# Altium schematic symbol library LimeMicroAltiumLib.SchLib: 659 symbols (part 13 of 22)
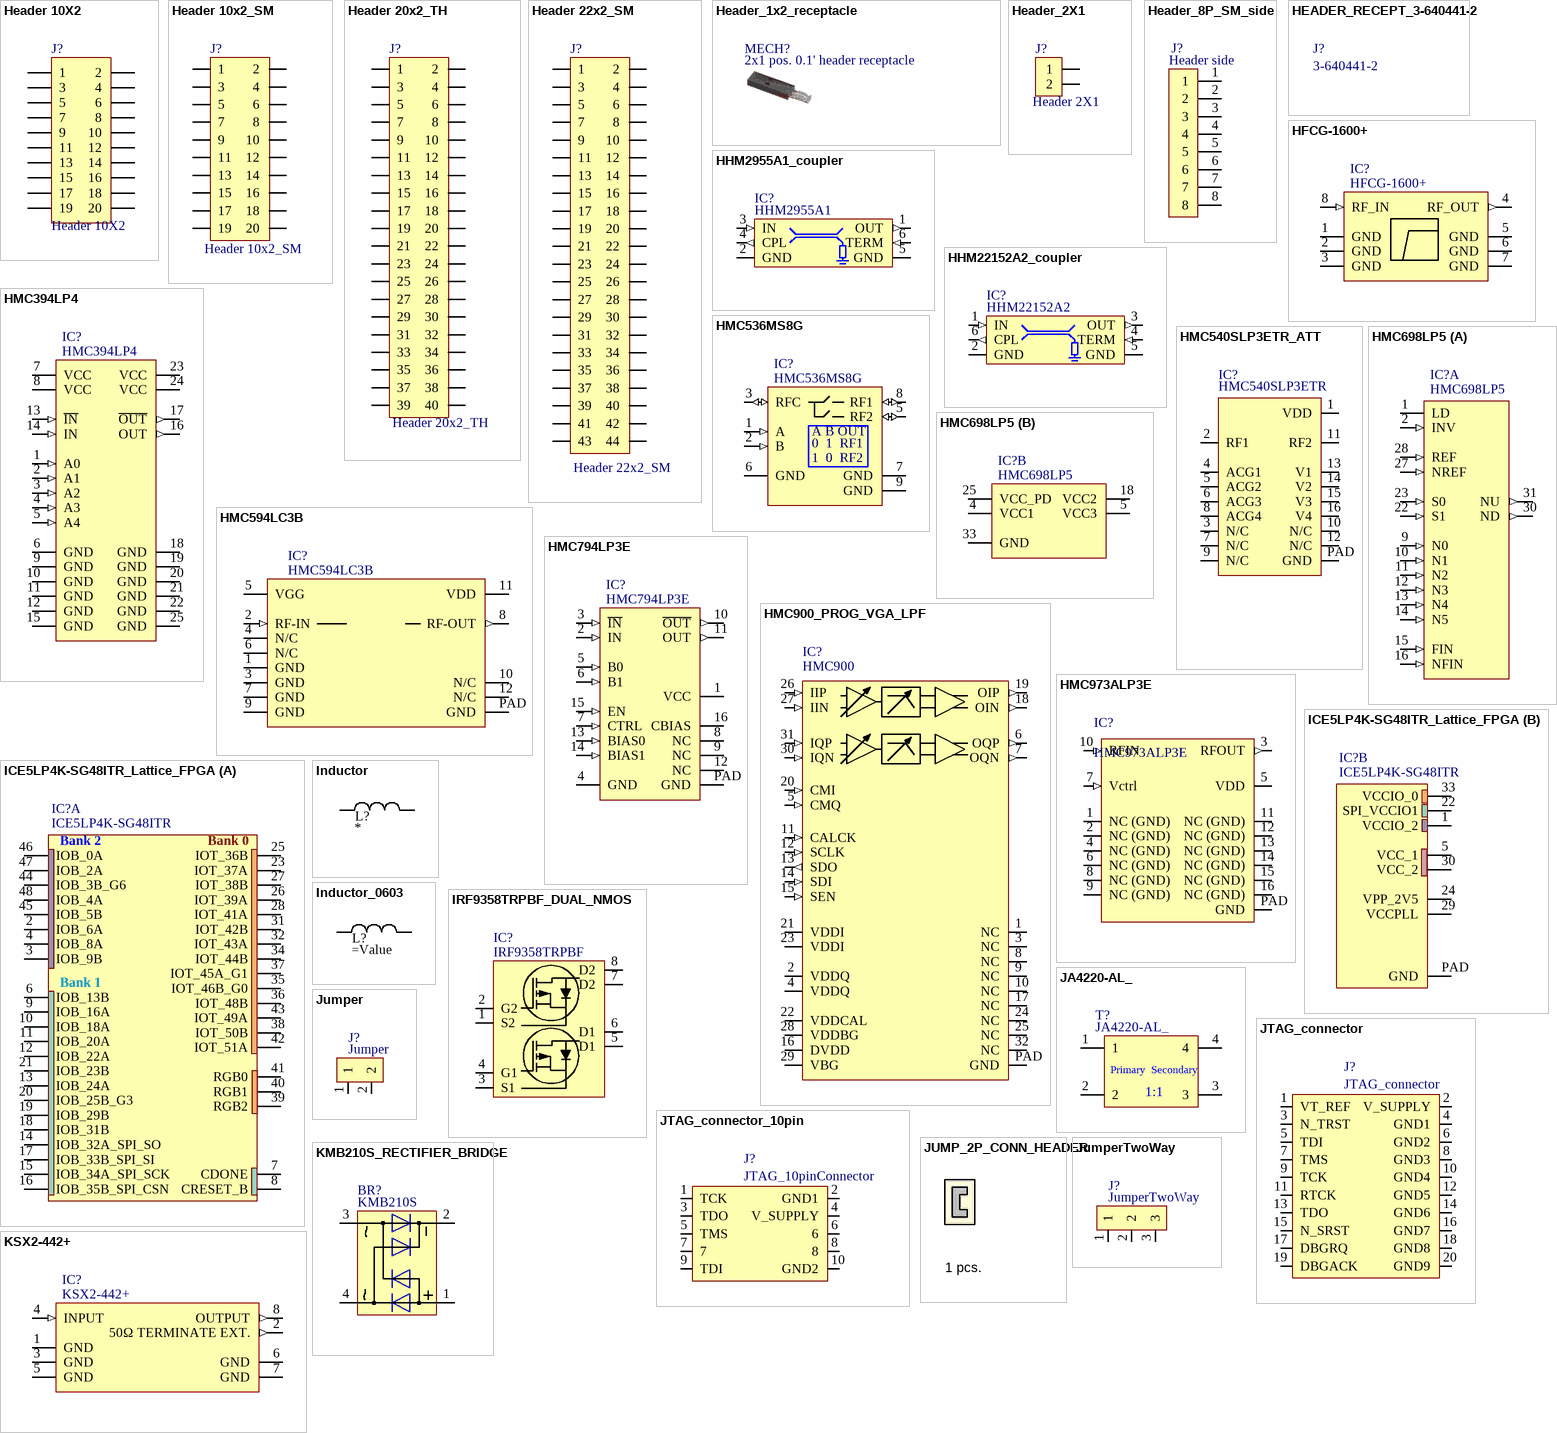
[diagram p90: symbols Header 10X2 to KSX2-442+]

## HMC794LP3E
designator IC?
2 GHz LOW NOISE PROGRAMMABLEDIVIDER (N = 1 to 4); Manufacturer: Analog Devices; Manufacturer Part Number 1: HMC794LP3E; Part Description: 2 GHz LOW NOISE PROGRAMMABLEDIVIDER (N = 1 to 4); Supplier 1: Mouser; Supplier Part Number 1: 584-HMC794LP3E
footprint HMC794LP3E_QFN3X3-16 (Quad Flat No Lead, Plastic; 16 Terminals; Body 3 x 3 mm; Pitch 0.5 mm)
pins: 1 VCC (power), 2 IN (in), 3 ~{IN} (in), 4 GND, 5 B0 (in), 6 B1 (in), 7 CTRL (in), 8 NC, 9 NC, 10 ~{OUT} (out), 11 OUT (out), 12 NC, 13 BIAS0 (in), 14 BIAS1 (in), 15 EN (in), 16 CBIAS (power), PAD GND

## HMC900_PROG_VGA_LPF
designator IC?, comment HMC900
HMC900 pin and package compatible alternative is HMC1023; Manufacturer: Analog Devices Hittite; Manufacturer Part Number 1: HMC900LP5E; Part Description: - Frequency Low Pass RF Filter (Radio Frequency) - Bandwidth - 32-VFQFN Exposed Pad; Operating Supply Voltage: 5V; Max Supply Voltage: 5.25V; Min Supply Voltage: 4.75V; Number of Channels: 2; Max Frequency: 80MHz; Bandwidth: 50MHz; Filter Type: LOW PASS FILTER; Min Frequency: 20MHz; Supplier 1: Digi-Key; Supplier Part Number 1: 1127-3123-ND; Stock 1: 78; Pricing 1: 1=35,35000, 10=32,60400, 25=31,13840, 100=28,51200 (USD); RoHS: Yes; Mount: Surface Mount; Case/Package: QFN; Number of Pins: 32; Weight: 0.006653oz; Min Operating Temperature: -40°C; Max Operating Temperature: 85°C; Type: Active; Number of Circuits: 2; Series: *; Length: 5.1mm; Width: 5.1mm; Height: 1mm; REACH SVHC: No SVHC; Package Quantity: 50; Packaging: Cut Tape
footprint HMC900_RECONFIG_VGA_LPF_QFN32 (QFN, 24-Leads, Body 4,00x4,00mm, Pitch 0,50mm, Thermal Pad 2,55x2,55mm, IPC Medium Density)
pins: 1 NC, 2 VDDQ (power), 3 NC, 4 VDDQ (power), 5 CMQ (in), 6 OQP (out), 7 OQN (out), 8 NC, 9 NC, 10 NC, 11 CALCK (in), 12 SCLK (in), 13 SDO (out), 14 SDI (in), 15 SEN (in), 16 DVDD (power), 17 NC, 18 OIN (out), 19 OIP (out), 20 CMI (in), 21 VDDI (power), 22 VDDCAL (power), 23 VDDI (power), 24 NC, 25 NC, 26 IIP (in), 27 IIN (in), 28 VDDBG (power), 29 VBG (power), 30 IQN (in), 31 IQP (in), 32 NC, PAD GND

## HMC973ALP3E
designator IC?
Part Description: RF Attenuators 28dB  500MHz ~ 6GHz 50 Ohms  16-VFQFN Exposed Pad, CSP; Manufacturer: Analog Devices Inc.; Supplier 1: Digi-Key; Supplier Part Number 1: 1127-3363-ND; Manufacturer Part Number 1: HMC973ALP3E
footprint HMC973ALP3E_QFN16_3x3
pins: 1 NC (GND), 2 NC (GND), 3 RFOUT (out), 4 NC (GND), 5 VDD (power), 6 NC (GND), 7 Vctrl (in), 8 NC (GND), 9 NC (GND), 10 RFIN (in), 11 NC (GND), 12 NC (GND), 13 NC (GND), 14 NC (GND), 15 NC (GND), 16 NC (GND), PAD GND

## ICE5LP4K-SG48ITR_Lattice_FPGA
designator IC?, comment ICE5LP4K-SG48ITR
Part Description: iCE40 Ultra™ Field Programmable Gate Array (FPGA) IC 39 81920 3520 48-VFQFN Exposed Pad; Manufacturer: Lattice Semiconductor; Supplier 1: Digikey; Supplier Part Number 1: 220-2234-1-ND; Manufacturer Part Number 1: ICE5LP4K-SG48ITR; Stock 1: 1298; Pricing 1: 1=8,8, 25=7,65, 100=7,41 (USD); RoHS: Yes; ComponentLink1URL: https://datasheet.octopart.com/ICE5LP4K-SG48ITR-Lattice-Semiconductor-datasheet-46750633.pdf?src-supplier=Future+Electronics; ComponentLink1Description: https://datasheet.octopart.com/ICE5LP4K-SG48ITR-Lattice-Semiconductor-datasheet-46750633.pdf?src-supplier=Future+Electronics; ComponentLink2URL: http://www.latticesemi.com/~/media/LatticeSemi/Documents/DataSheets/iCE/iCE40UltraFamilyDataSheet.pdf?src-supplier=Digikey; ComponentLink2Description: http://www.latticesemi.com/~/media/LatticeSemi/Documents/DataSheets/iCE/iCE40UltraFamilyDataSheet.pdf?src-supplier=Digikey; ComponentLink3URL: https://datasheet.octopart.com/ICE5LP4K-SG48ITR-Lattice-Semiconductor-datasheet-94675077.pdf?src-supplier=SHENGYU+ELECTRONICS; ComponentLink3Description: https://datasheet.octopart.com/ICE5LP4K-SG48ITR-Lattice-Semiconductor-datasheet-94675077.pdf?src-supplier=SHENGYU+ELECTRONICS
footprint ICE5LP4K-SG48ITR_Lattice_FPGA_QFN48 (Footprint not found)
part A pins: 2 IOB_6A, 3 IOB_9B, 4 IOB_8A, 6 IOB_13B, 7 CDONE, 8 CRESET_B, 9 IOB_16A, 10 IOB_18A, 11 IOB_20A, 12 IOB_22A, 13 IOB_24A, 14 IOB_32A_SPI_SO, 15 IOB_34A_SPI_SCK, 16 IOB_35B_SPI_CSN, 17 IOB_33B_SPI_SI, 18 IOB_31B, 19 IOB_29B, 20 IOB_25B_G3, 21 IOB_23B, 23 IOT_37A, 25 IOT_36B, 26 IOT_39A, 27 IOT_38B, 28 IOT_41A, 31 IOT_42B, 32 IOT_43A, 34 IOT_44B, 35 IOT_46B_G0, 36 IOT_48B, 37 IOT_45A_G1, 38 IOT_50B, 39 RGB2, 40 RGB1, 41 RGB0, 42 IOT_51A, 43 IOT_49A, 44 IOB_3B_G6, 45 IOB_5B, 46 IOB_0A, 47 IOB_2A, 48 IOB_4A
part B pins: 1 VCCIO_2 (power), 5 VCC_1 (power), 22 SPI_VCCIO1 (power), 24 VPP_2V5 (power), 29 VCCPLL (power), 30 VCC_2 (power), 33 VCCIO_0 (power), PAD GND
part A text: Bank 2; Bank 0; Bank 1

## Inductor
designator L?
Value: *
pins: 1, 2

## Inductor_0603
designator L?
pins: 1, 2

## IRF9358TRPBF_DUAL_NMOS
designator IC?, comment IRF9358TRPBF
Part Description: Mosfet Array 2 P-Channel (Dual) 30V 9.2A 2W Surface Mount 8-SO; Manufacturer: International Rectifier; Element Configuration: Dual; Drain to Source Breakdown Voltage: -30V; Rise Time: 7.2ns; Rds On Max: 16.3mR; Input Capacitance: 1.74nF; Nominal Vgs: -1.8V; Gate to Source Voltage (Vgs): 20V; Power Dissipation: 2W; Drain to Source Voltage (Vdss): 30V; Continuous Drain Current (ID): 9.2A; Turn-On Delay Time: 5.7ns; Turn-Off Delay Time: 146ns; Fall Time: 69ns; Drain to Source Resistance: 23.8mR; Supplier 1: Digi-Key; Supplier Part Number 1: IRF9358TRPBFDKR-ND; Manufacturer Part Number 1: IRF9358TRPBF; Stock 1: 0; RoHS: Yes; Mount: Surface Mount; Case/Package: SOIC; Number of Pins: 8; Min Operating Temperature: -55°C; Max Operating Temperature: 150°C; Package Quantity: 1; Packaging: Tape and Reel; Max Power Dissipation: 2W; Length: 5mm; Width: 4mm; Height: 1.5mm; Radiation Hardening: No; REACH SVHC: No SVHC; ComponentLink1URL: https://datasheet.ciiva.com/7798/irf9358pbf-7798959.pdf?src-supplier=Element14; ComponentLink1Description: https://datasheet.ciiva.com/7798/irf9358pbf-7798959.pdf?src-supplier=Element14; ComponentLink2URL: https://datasheet.ciiva.com/929/irf9358pbf-929243.pdf?src-supplier=Digi-Key; ComponentLink2Description: https://datasheet.ciiva.com/929/irf9358pbf-929243.pdf?src-supplier=Digi-Key; ComponentLink3URL: https://datasheet.ciiva.com/929/irf9358pbf-929244.pdf?src-supplier=Digi-Key; ComponentLink3Description: https://datasheet.ciiva.com/929/irf9358pbf-929244.pdf?src-supplier=Digi-Key; ComponentLink4URL: https://datasheet.ciiva.com/929/irf9358pbf-929245.pdf?src-supplier=Digi-Key; ComponentLink4Description: https://datasheet.ciiva.com/929/irf9358pbf-929245.pdf?src-supplier=Digi-Key
footprint IRF9358TRPBF_DUAL_NMOS_SOIC8 (8-Pin Small Outline Integrated Circuit 1.27 mm Pitch)
pins: 1 S2, 2 G2, 3 S1, 4 G1, 5 D1, 6 D1, 7 D2, 8 D2

## JA4220-AL_
designator T?
Part Description: RF balun; 1:1 ratio; 3 dB bandwidth: 0.1 MHz to 3.5 GHz; 3.8mm x 3.8mm; Supplier 1: Coilcraft; Manufacturer Part Number 1: JA4220-AL_; Supplier Part Number: JA4220-AL_
footprint JA4220-AL_
pins: 1, 2, 3, 4
text: Primary; Secondary; 1:1

## JTAG_connector
designator J?
pins: 1 VT_REF, 2 V_SUPPLY, 3 N_TRST, 4 GND1 (power), 5 TDI, 6 GND2 (power), 7 TMS, 8 GND3 (power), 9 TCK, 10 GND4 (power), 11 RTCK, 12 GND5 (power), 13 TDO, 14 GND6 (power), 15 N_SRST, 16 GND7 (power), 17 DBGRQ, 18 GND8 (power), 19 DBGACK, 20 GND9 (power)

## JTAG_connector_10pin
designator J?, comment JTAG_10pinConnector
footprint HEADER5x2_SM
pins: 1 TCK, 2 GND1 (power), 3 TDO, 4 V_SUPPLY (power), 5 TMS, 6, 7, 8, 9 TDI, 10 GND2 (power)

## JUMP_2P_CONN_HEADER
designator JMP?, comment 1 pcs.  (mechanical)
Shorting Jumper, 2-position, 2.54mm pitch; Manufacturer: Sullins Connector Solutions; Manufacturer Part Number 1: SPC02SYAN; Pitch: 0.100" (2.54mm); Gender: Female Sockets; Number of Positions or Pins (Grid): 2 (1 x 2); Supplier 1: Digi-Key; Type: Closed Top; Packaging: Bulk; Contact Finish: Gold; Color: Black; Height: 0.256" (6.50mm); RoHS: RoHS Compliant; Category: Connectors, Interconnects; Contact Finish Thickness: Flash; Supplier Part Number 1: S9001-ND
pins: 1 hidden, 2 hidden

## Jumper
designator J?
pins: 1, 2

## JumperTwoWay
designator J?
footprint HDR_1x3
pins: 1, 2, 3

## KMB210S_RECTIFIER_BRIDGE
designator BR?, comment KMB210S
Part Description: Bridge Rectifier Single Phase Schottky 100 V Surface Mount MBS; Manufacturer: SMC Diode Solutions; Manufacturer Part Number: KMB210S; Supplier Part Number 1: 1655-KMB210SCT-ND; Supplier 1: Digi-Key
footprint KMB210S_RECTIFIER_BRIDGE
pins: 1, 2, 3, 4

## KSX2-442+
designator IC?
Frequency Multiplier: 50Ω, Output 1200 to 4400 MHz; Manufacturer: Mini-Circuits; Supplier Part Number 1: KSX2-442+; Supplier 1: Mini-Circuits; Part Description: Frequency Multiplier: 50Ω, Output 1200 to 4400 MHz; Manufacturer Part Number 1: KSX2-442+
footprint KSX2-442+_HV1195
pins: 1 GND, 2 50Ω TERMINATE EXT. (out), 3 GND, 4 INPUT (in), 5 GND, 6 GND, 7 GND, 8 OUTPUT (out)

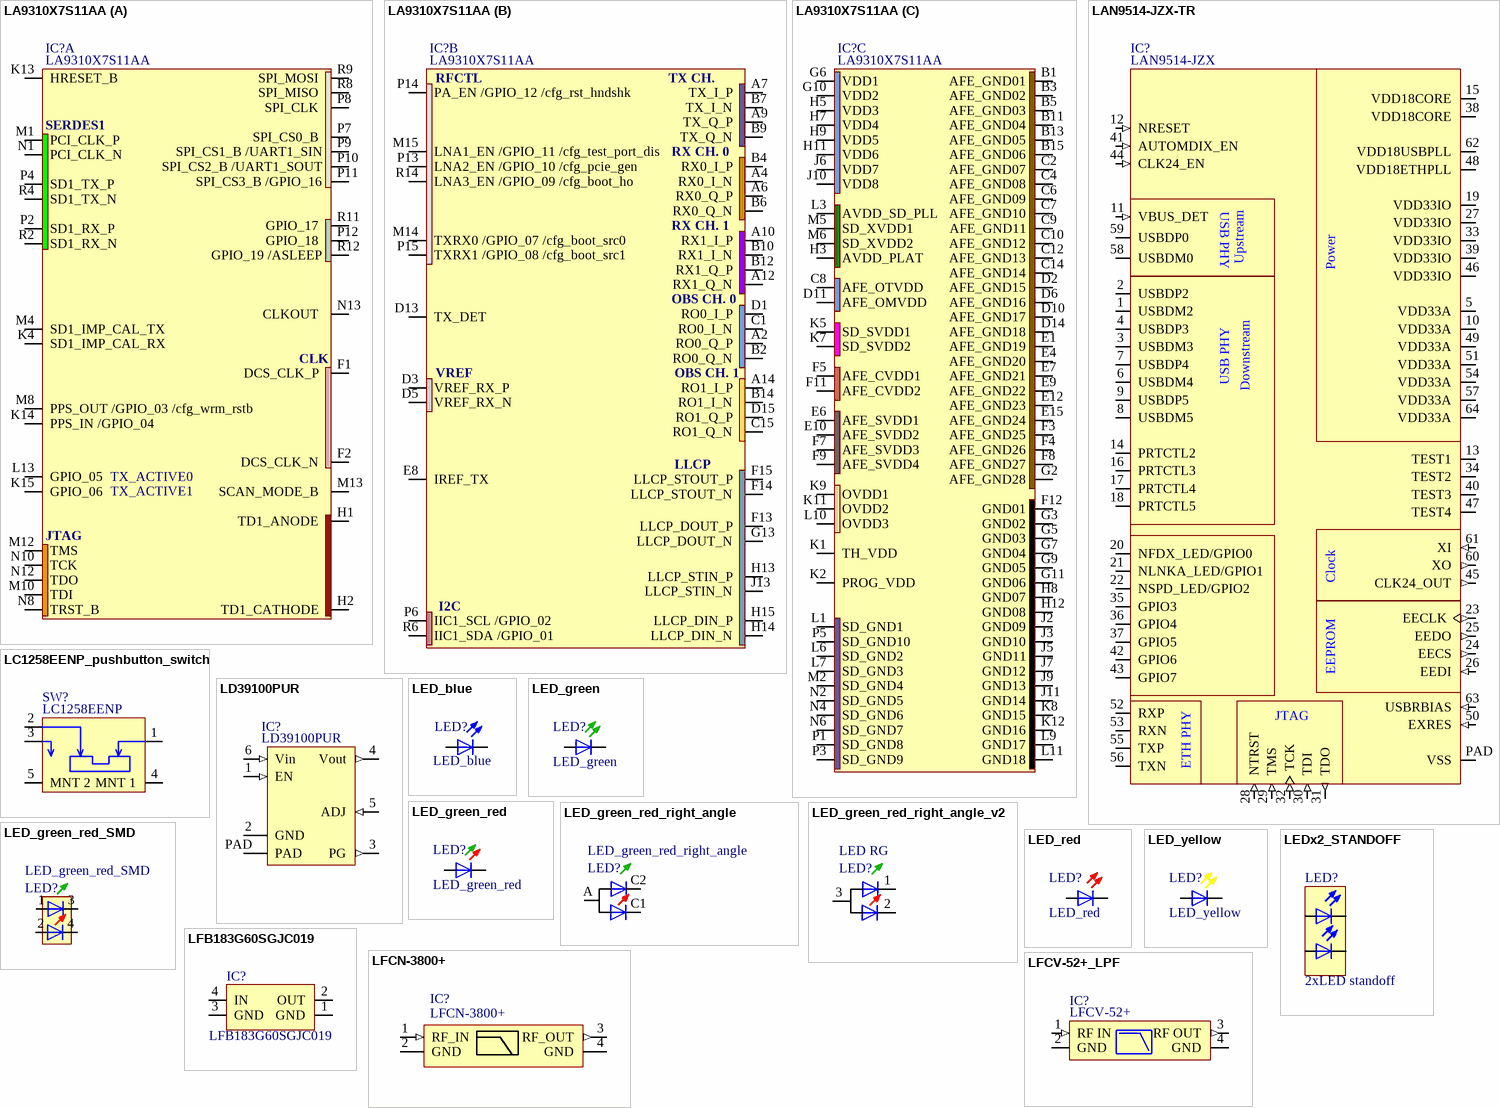
[diagram p51: symbols LA9310X7S11AA to LFCV-52+_LPF]

## LA9310X7S11AA
designator IC?
Part Description: LFBGA157, low profile, fine-pitch ball grid array package, 157 terminals, 0.5 mm pitch, 8 mm x 8 mm x 1.25 mm body.; Manufacturer: NXP Semiconductors; Manufacturer Part Number 1: LA9310X7S11AA; Supplier 1: NXP Semiconductors; Supplier Part Number 1: LA9310X7S11AA
footprint LA9310X7S11AA (Footprint not found)
part A pins: F1 DCS_CLK_P  (power), F2 DCS_CLK_N  (power), H1 TD1_ANODE  (power), H2 TD1_CATHODE  (power), K4 SD1_IMP_CAL_RX  (power), K13 HRESET_B  (power), K14 PPS_IN /GPIO_04 (power), K15 GPIO_06 (power), L13 GPIO_05 (power), M1 PCI_CLK_P  (power), M4 SD1_IMP_CAL_TX  (power), M8 PPS_OUT /GPIO_03 /cfg_wrm_rstb (power), M10 TDI  (power), M12 TMS  (power), M13 SCAN_MODE_B  (power), N1 PCI_CLK_N  (power), N8 TRST_B  (power), N10 TCK  (power), N12 TDO  (power), N13 CLKOUT  (power), P2 SD1_RX_P  (power), P4 SD1_TX_P  (power), P7 SPI_CS0_B  (power), P8 SPI_CLK  (power), P9 SPI_CS1_B /UART1_SIN (power), P10 SPI_CS2_B /UART1_SOUT (power), P11 SPI_CS3_B /GPIO_16 (power), P12 GPIO_18  (power), R2 SD1_RX_N  (power), R4 SD1_TX_N  (power), R8 SPI_MISO  (power), R9 SPI_MOSI  (power), R11 GPIO_17  (power), R12 GPIO_19 /ASLEEP (power)
part B pins: A2 RO0_Q_P  (power), A4 RX0_I_N  (power), A6 RX0_Q_P  (power), A7 TX_I_P  (power), A9 TX_Q_P  (power), A10 RX1_I_P  (power), A12 RX1_Q_N  (power), A14 RO1_I_P  (power), B2 RO0_Q_N  (power), B4 RX0_I_P  (power), B6 RX0_Q_N  (power), B7 TX_I_N  (power), B9 TX_Q_N  (power), B10 RX1_I_N  (power), B12 RX1_Q_P  (power), B14 RO1_I_N  (power), C1 RO0_I_N  (power), C15 RO1_Q_N  (power), D1 RO0_I_P  (power), D3 VREF_RX_P  (power), D5 VREF_RX_N  (power), D13 TX_DET  (power), D15 RO1_Q_P  (power), E8 IREF_TX  (power), F13 LLCP_DOUT_P  (power), F14 LLCP_STOUT_N  (power), F15 LLCP_STOUT_P  (power), G13 LLCP_DOUT_N  (power), H13 LLCP_STIN_P  (power), H14 LLCP_DIN_N  (power), H15 LLCP_DIN_P  (power), J13 LLCP_STIN_N  (power), M14 TXRX0 /GPIO_07 /cfg_boot_src0 (power), M15 LNA1_EN /GPIO_11 /cfg_test_port_dis (power), P6 IIC1_SCL /GPIO_02 (power), P13 LNA2_EN /GPIO_10 /cfg_pcie_gen (power), P14 PA_EN /GPIO_12 /cfg_rst_hndshk (power), P15 TXRX1 /GPIO_08 /cfg_boot_src1 (power), R6 IIC1_SDA /GPIO_01 (power), R14 LNA3_EN /GPIO_09 /cfg_boot_ho (power)
part C pins: B1 AFE_GND01 (power), B3 AFE_GND02 (power), B5 AFE_GND03 (power), B11 AFE_GND04 (power), B13 AFE_GND05 (power), B15 AFE_GND06 (power), C2 AFE_GND07 (power), C4 AFE_GND08 (power), C6 AFE_GND09 (power), C7 AFE_GND10 (power), C8 AFE_OTVDD (power), C9 AFE_GND11 (power), C10 AFE_GND12 (power), C12 AFE_GND13 (power), C14 AFE_GND14 (power), D2 AFE_GND15 (power), D6 AFE_GND16 (power), D10 AFE_GND17 (power), D11 AFE_OMVDD (power), D14 AFE_GND18 (power), E1 AFE_GND19 (power), E4 AFE_GND20 (power), E6 AFE_SVDD1 (power), E7 AFE_GND21 (power), E9 AFE_GND22 (power), E10 AFE_SVDD2 (power), E12 AFE_GND23 (power), E15 AFE_GND24 (power), F3 AFE_GND25 (power), F4 AFE_GND26 (power), F5 AFE_CVDD1 (power), F7 AFE_SVDD3 (power), F8 AFE_GND27 (power), F9 AFE_SVDD4 (power), F11 AFE_CVDD2 (power), F12 GND01 (power), G2 AFE_GND28 (power), G3 GND02 (power), G5 GND03 (power), G6 VDD1 (power), G7 GND04 (power), G9 GND05 (power), G10 VDD2 (power), G11 GND06 (power), H3 AVDD_PLAT (power), H5 VDD3 (power), H7 VDD4 (power), H8 GND07 (power), H9 VDD5 (power), H11 VDD6 (power), H12 GND08 (power), J2 GND09 (power), J3 GND10 (power), J5 GND11 (power), J6 VDD7 (power), J7 GND12 (power), J9 GND13 (power), J10 VDD8 (power), J11 GND14 (power), K1 TH_VDD (power), K2 PROG_VDD (power), K5 SD_SVDD1 (power), K7 SD_SVDD2 (power), K8 GND15 (power), K9 OVDD1 (power), K11 OVDD2 (power), K12 GND16 (power), L1 SD_GND1 (power), L3 AVDD_SD_PLL (power), L6 SD_GND2 (power), L7 SD_GND3 (power), L9 GND17 (power), L10 OVDD3 (power), L11 GND18 (power), M2 SD_GND4 (power), M5 SD_XVDD1 (power), M6 SD_XVDD2 (power), N2 SD_GND5 (power), N4 SD_GND6 (power), N6 SD_GND7 (power), P1 SD_GND8 (power), P3 SD_GND9 (power), P5 SD_GND10 (power)
part A text: SERDES1; CLK; TX_ACTIVE0; TX_ACTIVE1; JTAG
part B text: RFCTL; TX CH.; RX CH. 0; RX CH. 1; OBS CH. 0; VREF; OBS CH. 1; LLCP; I2C

## LAN9514-JZX-TR
designator IC?, comment LAN9514-JZX
Part Description: Ethernet Bridge, USB to Ethernet USB 2.0, 10/100 Base-T/TX PHY USB Interface 64-QFN (9x9; Manufacturer: Microchip Technology; Manufacturer Part Number 1: LAN9514-JZX-TR; Protocol: Ethernet; Function: Bridge, USB to Ethernet; Interface: USB; Standards: USB 2.0, 10/100 Base-T/TX PHY; Voltage - Supply: 1.8V, 3.3V; Current - Supply: 288mA; Supplier 1: Digi-Key; RoHS: RoHS Compliant; Category: Integrated Circuits (ICs); Stock 1: 3000; Pricing 1: 1=5.84, 25=4.8616, 100=4.8363 (USD); Packaging: Digi-Reel®; Part Status: Active; Operating Temperature: 0°C ~ 70°C; Package / Case: 64-VFQFN Exposed Pad; Supplier Device Package: 64-QFN (9x9); Base Part Number: LAN9514; ComponentLink1URL: http://www.microchip.com/mymicrochip/filehandler.aspx?ddocname=en562340; ComponentLink1Description: http://www.microchip.com/mymicrochip/filehandler.aspx?ddocname=en562340; Supplier Part Number 1: LAN9514-JZX-DKR-ND
footprint LAN9514I-JZX_QFN50P900X900X100-65N
pins: 1 USBDM2 (io), 2 USBDP2 (io), 3 USBDM3 (io), 4 USBDP3 (io), 5 VDD33A (power), 6 USBDM4 (io), 7 USBDP4 (io), 8 USBDM5 (io), 9 USBDP5 (io), 10 VDD33A (power), 11 VBUS_DET (in), 12 NRESET (in), 13 TEST1, 14 PRTCTL2 (io), 15 VDD18CORE (power), 16 PRTCTL3 (io), 17 PRTCTL4 (io), 18 PRTCTL5 (io), 19 VDD33IO (power), 20 NFDX_LED/GPIO0 (io), 21 NLNKA_LED/GPIO1 (io), 22 NSPD_LED/GPIO2 (io), 23 EECLK (out), 24 EECS (out), 25 EEDO (out), 26 EEDI (in), 27 VDD33IO (power), 28 NTRST (in), 29 TMS (in), 30 TDI (in), 31 TDO (out), 32 TCK (in), 33 VDD33IO (power), 34 TEST2, 35 GPIO3 (io), 36 GPIO4 (io), 37 GPIO5 (io), 38 VDD18CORE (power), 39 VDD33IO (power), 40 TEST3, 41 AUTOMDIX_EN (in), 42 GPIO6 (io), 43 GPIO7 (io), 44 CLK24_EN (in), 45 CLK24_OUT (out), 46 VDD33IO (power), 47 TEST4, 48 VDD18ETHPLL (power), 49 VDD33A (power), 50 EXRES (in), 51 VDD33A (power), 52 RXP (io), 53 RXN (io), 54 VDD33A (power), 55 TXP (io), 56 TXN (io), 57 VDD33A (power), 58 USBDM0 (io), 59 USBDP0 (io), 60 XO (out), 61 XI (in), 62 VDD18USBPLL (power), 63 USBRBIAS (in), 64 VDD33A (power), PAD VSS
text: USB PHY; Upstream; Power; Downstream; Clock; EEPROM; JTAG; ETH PHY

## LC1258EENP_pushbutton_switch
designator SW?, comment LC1258EENP
Manufacturer: E-Switch; Part Description: Pushbutton Switch SPDT Standard Through Hole, Right Angle; Contact Current Rating: 300mA; Number of Positions: 2NUMBER; Supplier 1: Digikey; Supplier Part Number 1: EG5886-ND; Manufacturer Part Number 1: LC1258EENP; Stock 1: 1591; Pricing 1: 1=1,06, 10=0,917, 25=0,8652, 50=0,8278, 100=0,7919, 400=0,72458, 800=0,69304, 1200=0,6752 (USD); RoHS: Yes; Height: 8.55mm; Lead Free: 5697LeadFree; ComponentLink1URL: https://datasheet.ciiva.com/16191/p070130-16191998.pdf?src-supplier=Onlinecomponents.com; ComponentLink1Description: https://datasheet.ciiva.com/16191/p070130-16191998.pdf?src-supplier=Onlinecomponents.com; ComponentLink2URL: https://datasheet.ciiva.com/2879/lc-2879579.pdf?src-supplier=Digikey; ComponentLink2Description: https://datasheet.ciiva.com/2879/lc-2879579.pdf?src-supplier=Digikey
footprint LC1258EENP_pushbutton_switch (Footprint not found)
pins: 1, 2, 3, 4 MNT 1, 5 MNT 2

## LD39100PUR
designator IC?
Manufacturer: STMicroelectronics; Part Description: Linear Voltage Regulator IC Positive Adjustable Output 0.8 V ~ 4.5 V 1A 6-DFN (3x3); Output Configuration: Positive; Output Type: Adjustable; Voltage - Input (Max): 5.5V; Voltage - Output (Min/Fixed): 0.8V; Voltage - Output (Max): 4.6V; Voltage Dropout (Max): 0.4V @ 1A; Current - Output: 1A; Current - Supply: 50µA ~ 300µA; PSRR: 70dB ~ 65dB (1kHz ~ 10kHz); Control Features: Enable, Power Good; Protection Features: Over Current, Over Temperature, Short Circuit; Supplier 1: Digi-Key; Manufacturer Part Number 1: LD39100PUR; RoHS: RoHS Compliant; Category: Integrated Circuits (ICs); Stock 1: 27970; Pricing 1: 1=0.85, 10=0.76, 100=0.5923, 500=0.48926, 1000=0.38625 (USD); Packaging: Cut Tape (CT); Part Status: Active; Operating Temperature: -40°C ~ 125°C; Mounting Type: Surface Mount; Package / Case: 6-VDFN Exposed Pad; Supplier Device Package: 6-DFN (3x3); ComponentLink1URL: http://www.st.com/content/ccc/resource/technical/document/datasheet/72/02/e5/ee/df/36/40/5e/CD00233788.pdf/files/CD00233788.pdf/jcr:content/translations/en.CD00233788.pdf; ComponentLink1Description: http://www.st.com/content/ccc/resource/technical/document/datasheet/72/02/e5/ee/df/36/40/5e/CD00233788.pdf/files/CD00233788.pdf/jcr:content/translations/en.CD00233788.pdf; Supplier Part Number 1: 497-11013-1-ND
footprint LD39100PUR
pins: 1 EN (in), 2 GND, 3 PG (out), 4 Vout (out), 5 ADJ (in), 6 Vin (in), PAD

## LED_blue
designator LED?
footprint LED-0603-BLUE
pins: A (power), K C (power)

## LED_green
designator LED?
footprint LED-0603-GREEN
pins: A (power), K C (power)

## LED_green_red
designator LED?
footprint LED-0603-GREEN
pins: A (power), K C (power)

## LED_green_red_right_angle
designator LED?
160-2033-1-ND; Manufacturer Part Number 1: LTST-S326KGJRKT; Viewing Angle: 130 deg; Brand: Lite-On; Illumination Color: Red, Green; If - Forward Current: 20 mA; Luminous Intensity: 45 mcd, 35 mcd; LED Size: 3 mm x 2 mm x 1 mm; Lens Color/Style: Water Clear; Vf - Forward Voltage: 2 V, 2 V; Wavelength/Color Temperature: 631 nm, 571 nm; Supplier 1: Mouser; Category: Standard LEDs - SMD; Minimum Order Quantity: 1; Minimum Operating Temperature: - 55 C; Packaging: Reel; RoHS: RoHS Compliant; Mounting Style: SMD/SMT; Standard Pack Qty: 3000; Package / Case: Side Looker; Orientation: Side View; Maximum Operating Temperature: + 85 C; Reeling: True; RoHS - Mouser: Y; Product Category: SMT LED; Manufacturer: Lite-On; Supplier Part Number 1: 859-LTST-S326KGJRKT
footprint LED_RG_RIGHT_ANGLE (LTST-S326KGJRKT)
pins: A (power), C1 (power), C2 (power)

## LED_green_red_right_angle_v2
designator LED?, comment LED RG
Part Description: Green, Red 572nm Green, 647nm Red LED Indication - Discrete 2.1V Green, 1.7V Red 2-SMD, No Lead; Manufacturer: Stanley Electric; Manufacturer Part Number 1: BRPY1211FTR; Color: Green,Red; Lens Color: White; Viewing Angle: 143°; Forward Voltage: 1.7V; Lens Style: Colorless; Wavelength: 570nm; Reverse Breakdown Voltage: 4V; Forward Current: 25mA; Dominant Wavelength: 647nm; Luminous Intensity: 17.6mcd; Test Current: 20mA; Lens Transparency: Diffused; Number of Elements: 2; Power Dissipation: 70mW; Supplier 1: Arrow Electronics; Supplier Part Number 1: BRPY1211F-TR; Stock 1: 0; RoHS: Yes; Mount: Surface Mount; Case/Package: SMD/SMT; Number of Pins: 3; Min Operating Temperature: -40°C; Max Operating Temperature: 85°C; Packaging: Tape and Reel; Package Quantity: 3000; Reverse Voltage: 4V; Length: 3mm; Width: 2mm; Height: 1.15mm; Depth: 2mm; Radiation Hardening: No; Lead Free: Lead Free; ComponentLink1URL: https://datasheet.ciiva.com/2114/1211f-e-2114386.pdf?src-supplier=Digi-Key; ComponentLink1Description: https://datasheet.ciiva.com/2114/1211f-e-2114386.pdf?src-supplier=Digi-Key
footprint LED_RG_RIGHT_ANGLE_v3 (LTST-S326KGJRKT)
pins: 1 C1 (power), 2 C2 (power), 3 A (power)

## LED_green_red_SMD
designator LED?
Manufacturer Part Number 1: HSMF-C165; Manufacturer: Avago Technologies US Inc.; Millicandela Rating: 15mcd Green, 10mcd Red; Lens Transparency: Diffused; Lens Color: White; Lens Style/Size: Rectangle with Flat Top, 1.60mm x 0.80mm; Wavelength - Peak: 570nm Green, 636nm Red; Wavelength - Dominant: 572nm Green, 621nm Red; Viewing Angle: 120°; Voltage - Forward (Vf) (Typ): 2.2V Green, 1.95V Red; Current - Test: 20mA; Color: Green, Red; Supplier 1: Digi-Key; Height (Max): 0.50mm; Packaging: Cut Tape (CT); Category: Optoelectronics; Mounting Type: Surface Mount; Package / Case: 0603 (1608 Metric); Size / Dimension: 1.60mm L x 0.80mm W; Supplier Device Package: *; RoHS: RoHS Compliant; Supplier Part Number 1: 516-1419-1-ND
footprint LED-2x0603
pins: 1 (power), 2 (power), 3 (power), 4 (power)

## LED_red
designator LED?
footprint LED-0603-RED
pins: A (power), K C (power)

## LED_yellow
designator LED?
footprint LED-0603-YELLOW
pins: A (power), K C (power)

## LEDx2_STANDOFF
designator LED?, comment 2xLED standoff
footprint LED_STANDOFF_H-201C (Bivar Inc. H-201C)
pins: A1 A (power), A2 A (power), K1 C (power), K2 C (power)

## LFB183G60SGJC019
designator IC?
Manufacturer: Murata; Part Description: RF Filter Band Pass 3500MHz Frequency 200MHz 1.8dB SMD 4Pin 0603; Frequency: 3.6GHz; Supplier 1: Mouser; Supplier Part Number 1: 81-LFB183G60SGJC019; Manufacturer Part Number 1: LFB183G60SGJC019; Stock 1: 2439; Pricing 1: 1=0,32, 10=0,213, 50=0,213, 100=0,15, 1000=0,114, 10000=0,087 (USD); RoHS: Yes; Number of Pins: 4; Package Quantity: 4000; Packaging: Tape and Reel; Length: 1.6mm; Width: 800um; Radiation Hardening: No; RoHS Compliant: Yes
footprint LFB183G60SGJC019 (Footprint not found)
pins: 1 GND (power), 2 OUT (io), 3 GND (power), 4 IN (io)

## LFCN-3800+
designator IC?
Low Pass Filter 50Ω   DC to 3900 MHz; Manufacturer: Mini-Circuits; Supplier Part Number 1: LFCN-3800+; Supplier 1: Mini-Circuits; Part Description: Low Pass Filter 50Ω   DC to 3900 MHz; Manufacturer Part Number 1: LFCN-3800+
footprint LFCN-3800+_FV1206
pins: 1 RF_IN (in), 2 GND, 3 RF_OUT (out), 4 GND

## LFCV-52+_LPF
designator IC?, comment LFCV-52+
Manufacturer: Mini Circuits; Part Description: Ceramic Low Pass Filter, 50Ω, DC to 52 MHz; Manufacturer Part Number 1: LFCV-52+; Supplier Part Number 1: LFCV-52+; Supplier 1: Mini Circuits
footprint LFCV-52+_LPF
pins: 1 RF IN (in), 2 GND, 3 RF OUT (out), 4 GND

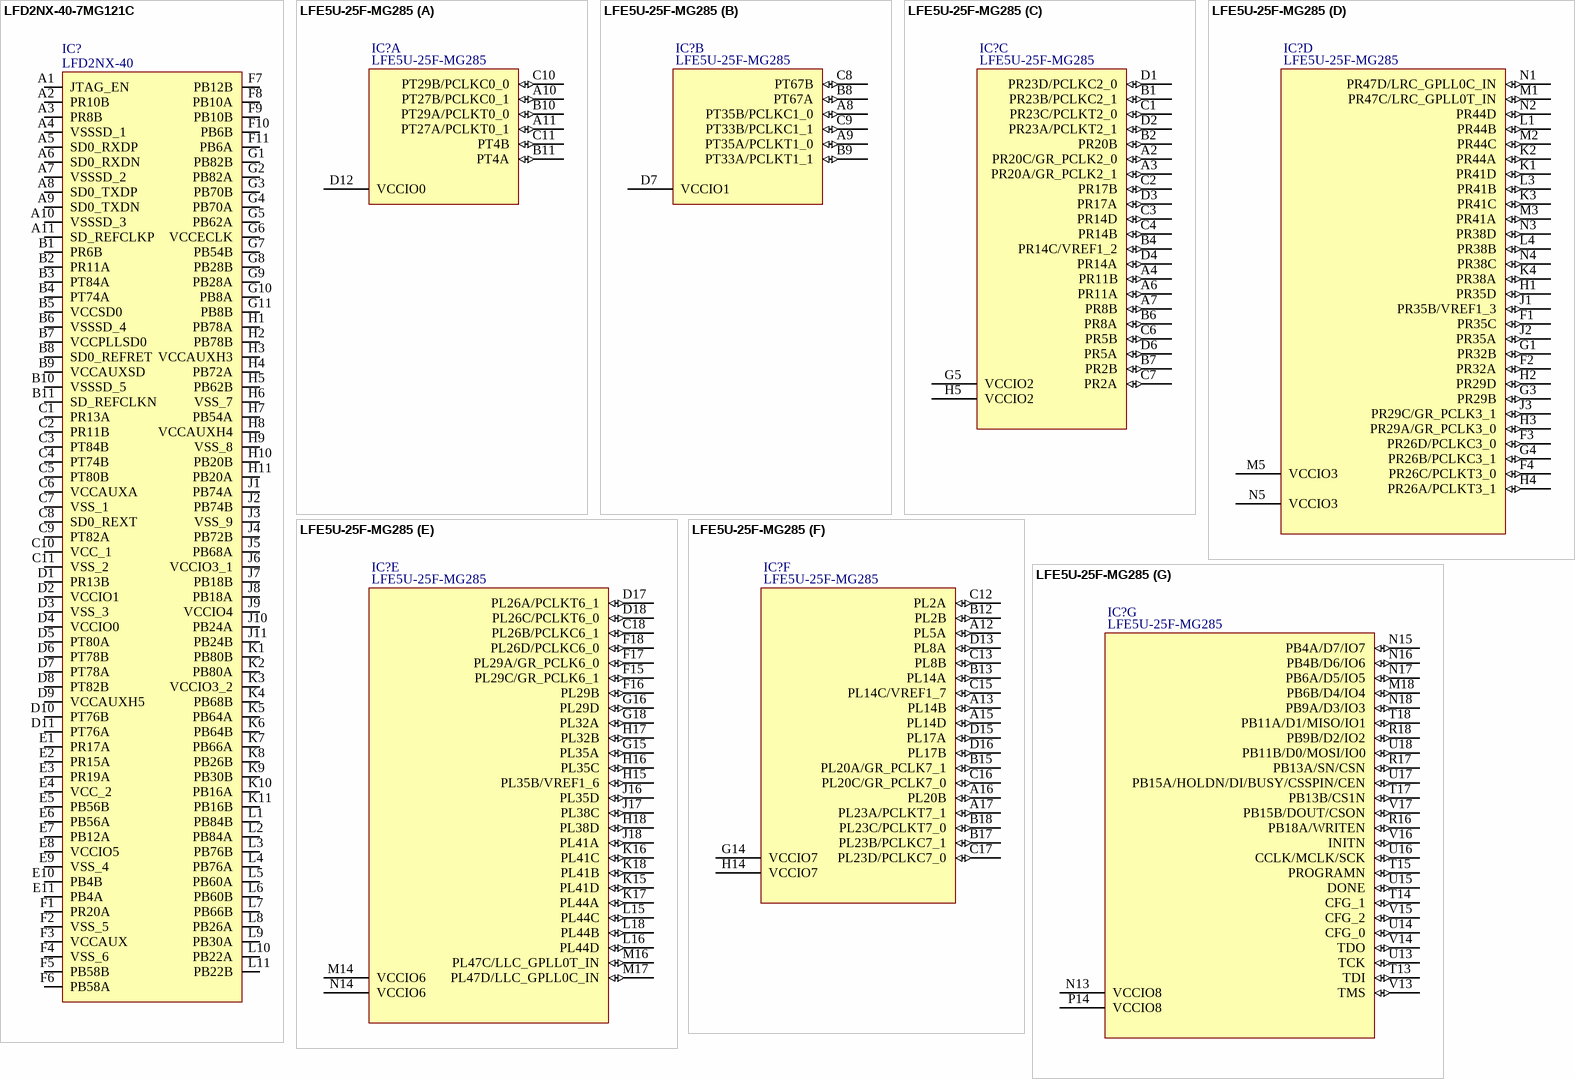
[diagram p52: symbols LFD2NX-40-7MG121C to LFE5U-25F-MG285]

## LFD2NX-40-7MG121C
designator IC?, comment LFD2NX-40
Integrated Circuit; Part Description: *
footprint BGA121C50P11X11_600X600X100
pins: A1 JTAG_EN, A2 PR10B, A3 PR8B, A4 VSSSD_1, A5 SD0_RXDP, A6 SD0_RXDN, A7 VSSSD_2, A8 SD0_TXDP, A9 SD0_TXDN, A10 VSSSD_3, A11 SD_REFCLKP, B1 PR6B, B2 PR11A, B3 PT84A, B4 PT74A, B5 VCCSD0, B6 VSSSD_4, B7 VCCPLLSD0, B8 SD0_REFRET, B9 VCCAUXSD, B10 VSSSD_5, B11 SD_REFCLKN, C1 PR13A, C2 PR11B, C3 PT84B, C4 PT74B, C5 PT80B, C6 VCCAUXA, C7 VSS_1, C8 SD0_REXT, C9 PT82A, C10 VCC_1, C11 VSS_2, D1 PR13B, D2 VCCIO1, D3 VSS_3, D4 VCCIO0, D5 PT80A, D6 PT78B, D7 PT78A, D8 PT82B, D9 VCCAUXH5, D10 PT76B, D11 PT76A, E1 PR17A, E2 PR15A, E3 PR19A, E4 VCC_2, E5 PB56B, E6 PB56A, E7 PB12A, E8 VCCIO5, E9 VSS_4, E10 PB4B, E11 PB4A, F1 PR20A, F2 VSS_5, F3 VCCAUX, F4 VSS_6, F5 PB58B, F6 PB58A, F7 PB12B, F8 PB10A, F9 PB10B, F10 PB6B, F11 PB6A, G1 PB82B, G2 PB82A, G3 PB70B, G4 PB70A, G5 PB62A, G6 VCCECLK, G7 PB54B, G8 PB28B, G9 PB28A, G10 PB8A, G11 PB8B, H1 PB78A, H2 PB78B, H3 VCCAUXH3, H4 PB72A, H5 PB62B, H6 VSS_7, H7 PB54A, H8 VCCAUXH4, H9 VSS_8, H10 PB20B, H11 PB20A, J1 PB74A, J2 PB74B, J3 VSS_9, J4 PB72B, J5 PB68A, J6 VCCIO3_1, J7 PB18B, J8 PB18A, J9 VCCIO4, J10 PB24A, J11 PB24B, K1 PB80B, K2 PB80A, K3 VCCIO3_2, K4 PB68B, K5 PB64A, K6 PB64B, K7 PB66A, K8 PB26B, K9 PB30B, K10 PB16A, K11 PB16B, L1 PB84B, L2 PB84A, L3 PB76B, L4 PB76A, L5 PB60A, L6 PB60B, L7 PB66B, L8 PB26A, L9 PB30A, L10 PB22A, L11 PB22B

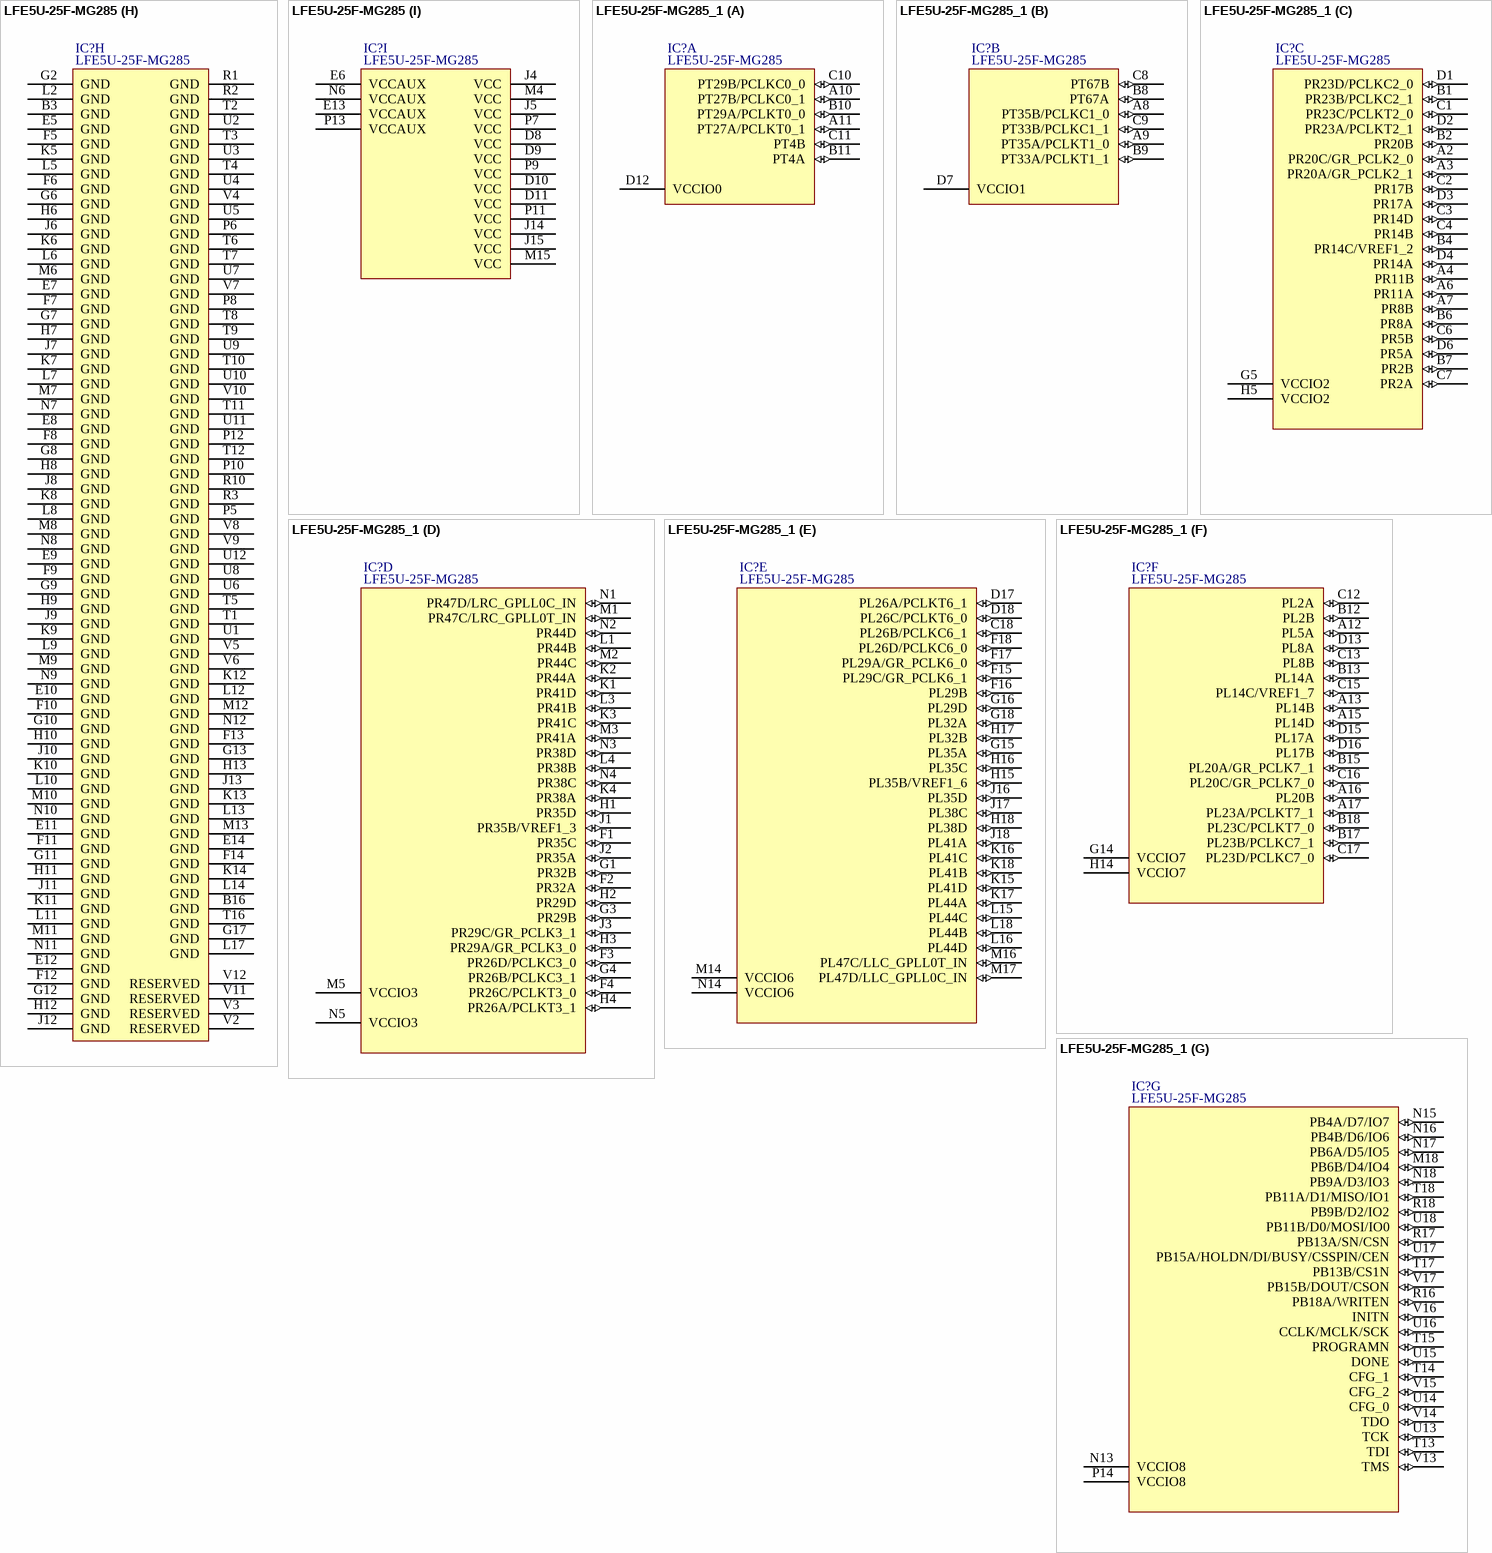
[diagram p53: symbols LFE5U-25F-MG285 to LFE5U-25F-MG285_1]

## LFE5U-25F-MG285
designator IC?
Part Description: series Field Programmable Gate Array (FPGA) IC 118 1032192 24000 285-LFBGA, CSPBGA; Manufacturer: Lattice Semiconductor; Manufacturer Part Number 1: LFE5U-25F-8MG285C; Number of Logic Blocks (LABs): 6000; Number of Logic Elements/Cells: 24000; RAM Size: 1032192b; Number of I/Os: 118; Supplier 1: Digi-Key; Supplier Part Number 1: LFE5U-25F-8MG285C-ND; Stock 1: 0; Pricing 1: 168=10,99798 (USD); RoHS: Yes; Mount: Surface Mount; Case/Package: TFBGA; Min Operating Temperature: 0°C; Max Operating Temperature: 85°C; RoHS Compliant: No; ComponentLink1URL: http://www.latticesemi.com/view_document?document_id=50461&src-supplier=Digi-Key; ComponentLink1Description: http://www.latticesemi.com/view_document?document_id=50461&src-supplier=Digi-Key
footprint LFE5U-25F-8MG285C_LATTICE_FPGA (285-ball csfBGA (MG285))
part A pins: A10 PT27B/PCLKC0_1 (io), A11 PT27A/PCLKT0_1 (io), B10 PT29A/PCLKT0_0 (io), B11 PT4A (io), C10 PT29B/PCLKC0_0 (io), C11 PT4B (io), D12 VCCIO0 (power)
part B pins: A8 PT35B/PCLKC1_0 (io), A9 PT35A/PCLKT1_0 (io), B8 PT67A (io), B9 PT33A/PCLKT1_1 (io), C8 PT67B (io), C9 PT33B/PCLKC1_1 (io), D7 VCCIO1 (power)
part C pins: A2 PR20C/GR_PCLK2_0 (io), A3 PR20A/GR_PCLK2_1 (io), A4 PR11B (io), A6 PR11A (io), A7 PR8B (io), B1 PR23B/PCLKC2_1 (io), B2 PR20B (io), B4 PR14C/VREF1_2 (io), B6 PR8A (io), B7 PR2B (io), C1 PR23C/PCLKT2_0 (io), C2 PR17B (io), C3 PR14D (io), C4 PR14B (io), C6 PR5B (io), C7 PR2A (io), D1 PR23D/PCLKC2_0 (io), D2 PR23A/PCLKT2_1 (io), D3 PR17A (io), D4 PR14A (io), D6 PR5A (io), G5 VCCIO2 (power), H5 VCCIO2 (power)
part D pins: F1 PR35C (io), F2 PR32A (io), F3 PR26D/PCLKC3_0 (io), F4 PR26C/PCLKT3_0 (io), G1 PR32B (io), G3 PR29B (io), G4 PR26B/PCLKC3_1 (io), H1 PR35D (io), H2 PR29D (io), H3 PR29A/GR_PCLK3_0 (io), H4 PR26A/PCLKT3_1 (io), J1 PR35B/VREF1_3 (io), J2 PR35A (io), J3 PR29C/GR_PCLK3_1 (io), K1 PR41D (io), K2 PR44A (io), K3 PR41C (io), K4 PR38A (io), L1 PR44B (io), L3 PR41B (io), L4 PR38B (io), M1 PR47C/LRC_GPLL0T_IN (io), M2 PR44C (io), M3 PR41A (io), M5 VCCIO3 (power), N1 PR47D/LRC_GPLL0C_IN (io), N2 PR44D (io), N3 PR38D (io), N4 PR38C (io), N5 VCCIO3 (power)
part E pins: C18 PL26B/PCLKC6_1 (io), D17 PL26A/PCLKT6_1 (io), D18 PL26C/PCLKT6_0 (io), F15 PL29C/GR_PCLK6_1 (io), F16 PL29B (io), F17 PL29A/GR_PCLK6_0 (io), F18 PL26D/PCLKC6_0 (io), G15 PL35A (io), G16 PL29D (io), G18 PL32A (io), H15 PL35B/VREF1_6 (io), H16 PL35C (io), H17 PL32B (io), H18 PL38D (io), J16 PL35D (io), J17 PL38C (io), J18 PL41A (io), K15 PL41D (io), K16 PL41C (io), K17 PL44A (io), K18 PL41B (io), L15 PL44C (io), L16 PL44D (io), L18 PL44B (io), M14 VCCIO6 (power), M16 PL47C/LLC_GPLL0T_IN (io), M17 PL47D/LLC_GPLL0C_IN (io), N14 VCCIO6 (power)
part F pins: A12 PL5A (io), A13 PL14B (io), A15 PL14D (io), A16 PL20B (io), A17 PL23A/PCLKT7_1 (io), B12 PL2B (io), B13 PL14A (io), B15 PL20A/GR_PCLK7_1 (io), B17 PL23B/PCLKC7_1 (io), B18 PL23C/PCLKT7_0 (io), C12 PL2A (io), C13 PL8B (io), C15 PL14C/VREF1_7 (io), C16 PL20C/GR_PCLK7_0 (io), C17 PL23D/PCLKC7_0 (io), D13 PL8A (io), D15 PL17A (io), D16 PL17B (io), G14 VCCIO7 (power), H14 VCCIO7 (power)
part G pins: M18 PB6B/D4/IO4 (io), N13 VCCIO8 (power), N15 PB4A/D7/IO7 (io), N16 PB4B/D6/IO6 (io), N17 PB6A/D5/IO5 (io), N18 PB9A/D3/IO3 (io), P14 VCCIO8 (power), R16 PB18A/WRITEN (io), R17 PB13A/SN/CSN (io), R18 PB9B/D2/IO2 (io), T13 TDI (io), T14 CFG_1 (io), T15 PROGRAMN (io), T17 PB13B/CS1N (io), T18 PB11A/D1/MISO/IO1 (io), U13 TCK (io), U14 CFG_0 (io), U15 DONE (io), U16 CCLK/MCLK/SCK (io), U17 PB15A/HOLDN/DI/BUSY/CSSPIN/CEN (io), U18 PB11B/D0/MOSI/IO0 (io), V13 TMS (io), V14 TDO (io), V15 CFG_2 (io), V16 INITN (io), V17 PB15B/DOUT/CSON (io)
part H pins: B3 GND (power), B16 GND (power), E5 GND (power), E7 GND (power), E8 GND (power), E9 GND (power), E10 GND (power), E11 GND (power), E12 GND (power), E14 GND (power), F5 GND (power), F6 GND (power), F7 GND (power), F8 GND (power), F9 GND (power), F10 GND (power), F11 GND (power), F12 GND (power), F13 GND (power), F14 GND (power), G2 GND (power), G6 GND (power), G7 GND (power), G8 GND (power), G9 GND (power), G10 GND (power), G11 GND (power), G12 GND (power), G13 GND (power), G17 GND (power), H6 GND (power), H7 GND (power), H8 GND (power), H9 GND (power), H10 GND (power), H11 GND (power), H12 GND (power), H13 GND (power), J6 GND (power), J7 GND (power), J8 GND (power), J9 GND (power), J10 GND (power), J11 GND (power), J12 GND (power), J13 GND (power), K5 GND (power), K6 GND (power), K7 GND (power), K8 GND (power), K9 GND (power), K10 GND (power), K11 GND (power), K12 GND (power), K13 GND (power), K14 GND (power), L2 GND (power), L5 GND (power), L6 GND (power), L7 GND (power), L8 GND (power), L9 GND (power), L10 GND (power), L11 GND (power), L12 GND (power), L13 GND (power), L14 GND (power), L17 GND (power), M6 GND (power), M7 GND (power), M8 GND (power), M9 GND (power), M10 GND (power), M11 GND (power), M12 GND (power), M13 GND (power), N7 GND (power), N8 GND (power), N9 GND (power), N10 GND (power), N11 GND (power), N12 GND (power), P5 GND (power), P6 GND (power), P8 GND (power), P10 GND (power), P12 GND (power), R1 GND (power), R2 GND (power), R3 GND (power), R10 GND (power), T1 GND (power), T2 GND (power), T3 GND (power), T4 GND (power), T5 GND (power), T6 GND (power), T7 GND (power), T8 GND (power), T9 GND (power), T10 GND (power), T11 GND (power), T12 GND (power), T16 GND (power), U1 GND (power), U2 GND (power), U3 GND (power), U4 GND (power), U5 GND (power), U6 GND (power), U7 GND (power), U8 GND (power), U9 GND (power), U10 GND (power), U11 GND (power), U12 GND (power), V2 RESERVED (power), V3 RESERVED (power), V4 GND (power), V5 GND (power), V6 GND (power), V7 GND (power), V8 GND (power), V9 GND (power), V10 GND (power), V11 RESERVED (power), V12 RESERVED (power)
part I pins: D8 VCC (power), D9 VCC (power), D10 VCC (power), D11 VCC (power), E6 VCCAUX (power), E13 VCCAUX (power), J4 VCC (power), J5 VCC (power), J14 VCC (power), J15 VCC (power), M4 VCC (power), M15 VCC (power), N6 VCCAUX (power), P7 VCC (power), P9 VCC (power), P11 VCC (power), P13 VCCAUX (power)

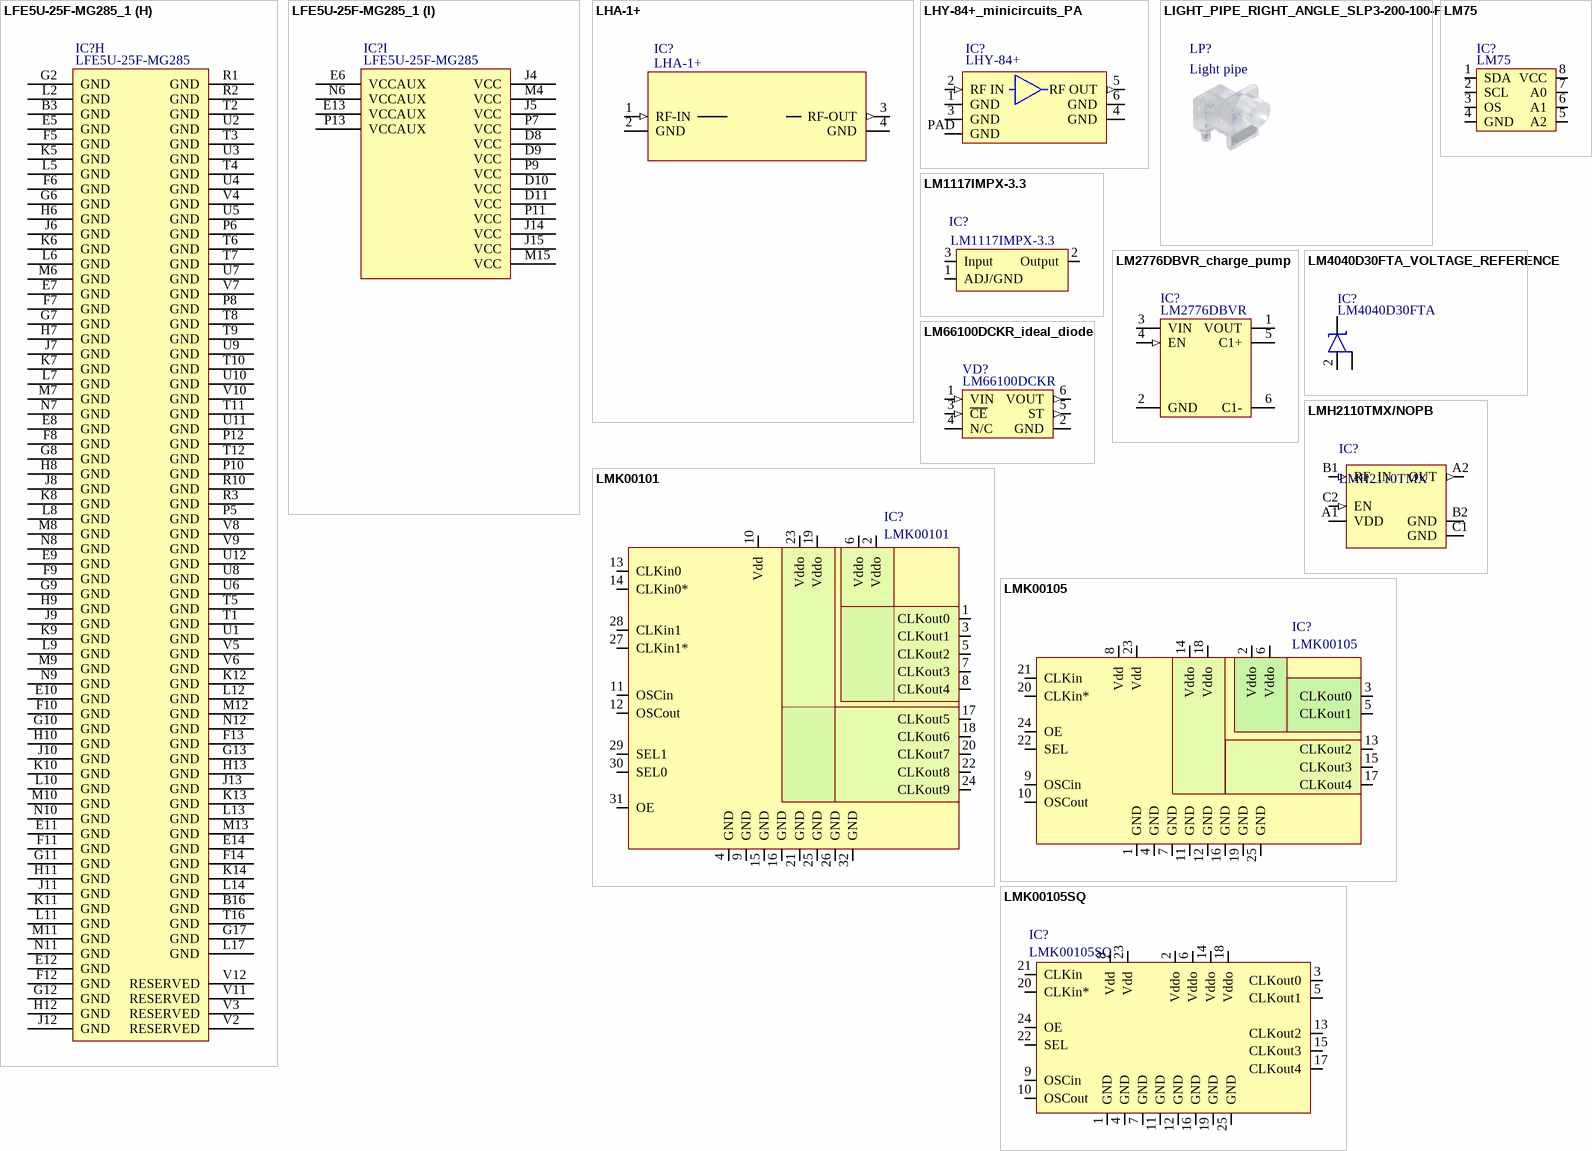
[diagram p54: symbols LFE5U-25F-MG285_1 to LMK00105SQ]

## LFE5U-25F-MG285_1
designator IC?, comment LFE5U-25F-MG285
Part Description: series Field Programmable Gate Array (FPGA) IC 118 1032192 24000 285-LFBGA, CSPBGA; Manufacturer: Lattice Semiconductor; Manufacturer Part Number 1: LFE5U-25F-8MG285C; Number of Logic Blocks (LABs): 6000; Number of Logic Elements/Cells: 24000; RAM Size: 1032192b; Number of I/Os: 118; Supplier 1: Digi-Key; Supplier Part Number 1: LFE5U-25F-8MG285C-ND; Stock 1: 0; Pricing 1: 168=10,99798 (USD); RoHS: Yes; Mount: Surface Mount; Case/Package: TFBGA; Min Operating Temperature: 0°C; Max Operating Temperature: 85°C; RoHS Compliant: No; ComponentLink1URL: http://www.latticesemi.com/view_document?document_id=50461&src-supplier=Digi-Key; ComponentLink1Description: http://www.latticesemi.com/view_document?document_id=50461&src-supplier=Digi-Key
footprint LFE5U-25F-8MG285C_LATTICE_FPGA (285-ball csfBGA (MG285))
part A pins: A10 PT27B/PCLKC0_1 (io), A11 PT27A/PCLKT0_1 (io), B10 PT29A/PCLKT0_0 (io), B11 PT4A (io), C10 PT29B/PCLKC0_0 (io), C11 PT4B (io), D12 VCCIO0 (power)
part B pins: A8 PT35B/PCLKC1_0 (io), A9 PT35A/PCLKT1_0 (io), B8 PT67A (io), B9 PT33A/PCLKT1_1 (io), C8 PT67B (io), C9 PT33B/PCLKC1_1 (io), D7 VCCIO1 (power)
part C pins: A2 PR20C/GR_PCLK2_0 (io), A3 PR20A/GR_PCLK2_1 (io), A4 PR11B (io), A6 PR11A (io), A7 PR8B (io), B1 PR23B/PCLKC2_1 (io), B2 PR20B (io), B4 PR14C/VREF1_2 (io), B6 PR8A (io), B7 PR2B (io), C1 PR23C/PCLKT2_0 (io), C2 PR17B (io), C3 PR14D (io), C4 PR14B (io), C6 PR5B (io), C7 PR2A (io), D1 PR23D/PCLKC2_0 (io), D2 PR23A/PCLKT2_1 (io), D3 PR17A (io), D4 PR14A (io), D6 PR5A (io), G5 VCCIO2 (power), H5 VCCIO2 (power)
part D pins: F1 PR35C (io), F2 PR32A (io), F3 PR26D/PCLKC3_0 (io), F4 PR26C/PCLKT3_0 (io), G1 PR32B (io), G3 PR29B (io), G4 PR26B/PCLKC3_1 (io), H1 PR35D (io), H2 PR29D (io), H3 PR29A/GR_PCLK3_0 (io), H4 PR26A/PCLKT3_1 (io), J1 PR35B/VREF1_3 (io), J2 PR35A (io), J3 PR29C/GR_PCLK3_1 (io), K1 PR41D (io), K2 PR44A (io), K3 PR41C (io), K4 PR38A (io), L1 PR44B (io), L3 PR41B (io), L4 PR38B (io), M1 PR47C/LRC_GPLL0T_IN (io), M2 PR44C (io), M3 PR41A (io), M5 VCCIO3 (power), N1 PR47D/LRC_GPLL0C_IN (io), N2 PR44D (io), N3 PR38D (io), N4 PR38C (io), N5 VCCIO3 (power)
part E pins: C18 PL26B/PCLKC6_1 (io), D17 PL26A/PCLKT6_1 (io), D18 PL26C/PCLKT6_0 (io), F15 PL29C/GR_PCLK6_1 (io), F16 PL29B (io), F17 PL29A/GR_PCLK6_0 (io), F18 PL26D/PCLKC6_0 (io), G15 PL35A (io), G16 PL29D (io), G18 PL32A (io), H15 PL35B/VREF1_6 (io), H16 PL35C (io), H17 PL32B (io), H18 PL38D (io), J16 PL35D (io), J17 PL38C (io), J18 PL41A (io), K15 PL41D (io), K16 PL41C (io), K17 PL44A (io), K18 PL41B (io), L15 PL44C (io), L16 PL44D (io), L18 PL44B (io), M14 VCCIO6 (power), M16 PL47C/LLC_GPLL0T_IN (io), M17 PL47D/LLC_GPLL0C_IN (io), N14 VCCIO6 (power)
part F pins: A12 PL5A (io), A13 PL14B (io), A15 PL14D (io), A16 PL20B (io), A17 PL23A/PCLKT7_1 (io), B12 PL2B (io), B13 PL14A (io), B15 PL20A/GR_PCLK7_1 (io), B17 PL23B/PCLKC7_1 (io), B18 PL23C/PCLKT7_0 (io), C12 PL2A (io), C13 PL8B (io), C15 PL14C/VREF1_7 (io), C16 PL20C/GR_PCLK7_0 (io), C17 PL23D/PCLKC7_0 (io), D13 PL8A (io), D15 PL17A (io), D16 PL17B (io), G14 VCCIO7 (power), H14 VCCIO7 (power)
part G pins: M18 PB6B/D4/IO4 (io), N13 VCCIO8 (power), N15 PB4A/D7/IO7 (io), N16 PB4B/D6/IO6 (io), N17 PB6A/D5/IO5 (io), N18 PB9A/D3/IO3 (io), P14 VCCIO8 (power), R16 PB18A/WRITEN (io), R17 PB13A/SN/CSN (io), R18 PB9B/D2/IO2 (io), T13 TDI (io), T14 CFG_1 (io), T15 PROGRAMN (io), T17 PB13B/CS1N (io), T18 PB11A/D1/MISO/IO1 (io), U13 TCK (io), U14 CFG_0 (io), U15 DONE (io), U16 CCLK/MCLK/SCK (io), U17 PB15A/HOLDN/DI/BUSY/CSSPIN/CEN (io), U18 PB11B/D0/MOSI/IO0 (io), V13 TMS (io), V14 TDO (io), V15 CFG_2 (io), V16 INITN (io), V17 PB15B/DOUT/CSON (io)
part H pins: B3 GND (power), B16 GND (power), E5 GND (power), E7 GND (power), E8 GND (power), E9 GND (power), E10 GND (power), E11 GND (power), E12 GND (power), E14 GND (power), F5 GND (power), F6 GND (power), F7 GND (power), F8 GND (power), F9 GND (power), F10 GND (power), F11 GND (power), F12 GND (power), F13 GND (power), F14 GND (power), G2 GND (power), G6 GND (power), G7 GND (power), G8 GND (power), G9 GND (power), G10 GND (power), G11 GND (power), G12 GND (power), G13 GND (power), G17 GND (power), H6 GND (power), H7 GND (power), H8 GND (power), H9 GND (power), H10 GND (power), H11 GND (power), H12 GND (power), H13 GND (power), J6 GND (power), J7 GND (power), J8 GND (power), J9 GND (power), J10 GND (power), J11 GND (power), J12 GND (power), J13 GND (power), K5 GND (power), K6 GND (power), K7 GND (power), K8 GND (power), K9 GND (power), K10 GND (power), K11 GND (power), K12 GND (power), K13 GND (power), K14 GND (power), L2 GND (power), L5 GND (power), L6 GND (power), L7 GND (power), L8 GND (power), L9 GND (power), L10 GND (power), L11 GND (power), L12 GND (power), L13 GND (power), L14 GND (power), L17 GND (power), M6 GND (power), M7 GND (power), M8 GND (power), M9 GND (power), M10 GND (power), M11 GND (power), M12 GND (power), M13 GND (power), N7 GND (power), N8 GND (power), N9 GND (power), N10 GND (power), N11 GND (power), N12 GND (power), P5 GND (power), P6 GND (power), P8 GND (power), P10 GND (power), P12 GND (power), R1 GND (power), R2 GND (power), R3 GND (power), R10 GND (power), T1 GND (power), T2 GND (power), T3 GND (power), T4 GND (power), T5 GND (power), T6 GND (power), T7 GND (power), T8 GND (power), T9 GND (power), T10 GND (power), T11 GND (power), T12 GND (power), T16 GND (power), U1 GND (power), U2 GND (power), U3 GND (power), U4 GND (power), U5 GND (power), U6 GND (power), U7 GND (power), U8 GND (power), U9 GND (power), U10 GND (power), U11 GND (power), U12 GND (power), V2 RESERVED (power), V3 RESERVED (power), V4 GND (power), V5 GND (power), V6 GND (power), V7 GND (power), V8 GND (power), V9 GND (power), V10 GND (power), V11 RESERVED (power), V12 RESERVED (power)
part I pins: D8 VCC (power), D9 VCC (power), D10 VCC (power), D11 VCC (power), E6 VCCAUX (power), E13 VCCAUX (power), J4 VCC (power), J5 VCC (power), J14 VCC (power), J15 VCC (power), M4 VCC (power), M15 VCC (power), N6 VCCAUX (power), P7 VCC (power), P9 VCC (power), P11 VCC (power), P13 VCCAUX (power)

## LHA-1+
designator IC?
Monolithic Amplifier 50Ω 0.05 to 6 GHz; Manufacturer: Mini-Circuits; Supplier 1: Mini-Circuits; Manufacturer Part Number 1: LHA-1+; Supplier Part Number 1: LHA-1+; Part Description: Monolithic Amplifier 50Ω 0.05 to 6 GHz
footprint LHA-1+_FG873
pins: 1 RF-IN (in), 2 GND, 3 RF-OUT (out), 4 GND

## LHY-84+_minicircuits_PA
designator IC?, comment LHY-84+
Part Description: RF Amplifier IC CATV, DBS, LTE, MMDS, Wireless LAN 0Hz ~ 7GHz; Manufacturer: Mini-Circuits; Supplier 1: Mouser; Supplier Part Number 1: 139-LHY-84+; Manufacturer Part Number 1: LHY-84+; Stock 1: 156; Pricing 1: 1=2,93, 10=2,93, 50=2,93, 100=2,85, 1000=2,85, 10000=2,85 (USD); RoHS: No
footprint LHY-84+_minicircuits_PA_2X2_MCLP
pins: 1 GND, 2 RF IN (in), 3 GND, 4 GND, 5 RF OUT (out), 6 GND, PAD GND

## LIGHT_PIPE_RIGHT_ANGLE_SLP3-200-100-F
designator LP?, comment Light pipe
Part Description: Light Pipe Single Clear Rigid Board Mount, Press Fit, Right Angle; Manufacturer: Bivar; Manufacturer Part Number 1: SLP3-200-100-F; Supplier 1: Digi-Key; Supplier Part Number 1: 492-1865-ND; Stock 1: 11458; Pricing 1: 1=0,70000, 10=0,45900, 100=0,30340, 1000=0,23424, 2000=0,21167, 5000=0,19755, 10000=0,19050, 25000=0,18768 (USD); RoHS: Yes; ComponentLink1URL: https://datasheet.ciiva.com/1535/1760190-1535004.pdf?src-supplier=Element14; ComponentLink1Description: https://datasheet.ciiva.com/1535/1760190-1535004.pdf?src-supplier=Element14; ComponentLink2URL: https://datasheet.ciiva.com/48976/70536303-48976693.pdf?src-supplier=Allied+Electronics; ComponentLink2Description: https://datasheet.ciiva.com/48976/70536303-48976693.pdf?src-supplier=Allied+Electronics; ComponentLink3URL: https://datasheet.ciiva.com/18526/slp3-xxx-xxx-x-18526910.pdf?src-supplier=Digi-Key; ComponentLink3Description: https://datasheet.ciiva.com/18526/slp3-xxx-xxx-x-18526910.pdf?src-supplier=Digi-Key
footprint LIGHT_PIPE_RIGHT_ANGLE_SLP3-200-100-F

## LM75
designator IC?
Manufacturer: NXP Semiconductors; Manufacturer Part Number: LM75BTP,147; Sensing Temperature - Local: -55°C ~ 125°C; Output Type: I²C; Accuracy - Highest (Lowest): ±2°C (±3°C); Voltage - Supply: 2.8 V ~ 5.5 V; Test Condition: -25°C ~ 100°C (-55°C ~ 125°C); Sensor Type: Digital, Local; Resolution: 10 b; Supplier 1: Digi-Key; Operating Temperature: -55°C ~ 125°C; Features: Output Switch, Programmable Limit, Shutdown Mode; Supplier Device Package: 8-HWSON (2x3); Sensing Temperature - Remote: -; Category: Sensors, Transducers; Packaging: Tape & Reel (TR); RoHS: RoHS Compliant; Package / Case: 8-WFDFN Exposed Pad; Supplier Part Number 1: 568-9815-2-ND
footprint HWSON8_LM75
pins: 1 SDA, 2 SCL, 3 OS, 4 GND, 5 A2, 6 A1, 7 A0, 8 VCC

## LM1117IMPX-3.3
designator IC?
Manufacturer Part Number 1: LM1117IMP-3.3/NOPB; Manufacturer: Texas Instruments; Regulator Topology: Positive Fixed; Voltage - Input: Up to 15V; Current - Limit (Min): 800mA; Number of Regulators: 1; Voltage - Output: 3.3V; Voltage - Dropout (Typical): 1.2V @ 800mA; Supplier 1: Digi-Key; RoHS: RoHS Compliant; Mounting Type: Surface Mount; Operating Temperature: -40°C ~ 125°C; Supplier Device Package: SOT-223; Packaging: Cut Tape (CT); Package / Case: TO-261-4, TO-261AA; Current - Output: 800mA; Category: Integrated Circuits (ICs); Supplier Part Number 1: LM1117IMP-3.3/NOPBCT-ND
footprint sot-223 (Footprint not found)
pins: 1 ADJ/GND, 2 Output, 3 Input

## LM2776DBVR_charge_pump
designator IC?, comment LM2776DBVR
Manufacturer: Texas Instruments; Part Description: Charge Pump Switching Regulator IC Negative Fixed -Vin 1 Output 200mA SOT-23-6; Supplier 1: Digikey; Supplier Part Number 1: 296-43957-1-ND; Manufacturer Part Number 1: LM2776DBVR; Stock 1: 10973; Pricing 1: 1=0,97, 10=0,7, 25=0,6316, 100=0,5562, 250=0,52024, 500=0,49856, 1000=0,48071 (USD); RoHS: Yes; ComponentLink1URL: http://www.ti.com/lit/ds/symlink/lm2776.pdf?src-supplier=Digikey; ComponentLink1Description: http://www.ti.com/lit/ds/symlink/lm2776.pdf?src-supplier=Digikey; ComponentLink2URL: http://www.ti.com/lit/ds/symlink/lm2776.pdf?src-supplier=Farnell; ComponentLink2Description: http://www.ti.com/lit/ds/symlink/lm2776.pdf?src-supplier=Farnell; ComponentLink3URL: http://www.ti.com/general/docs/lit/getliterature.tsp?genericPartNumber=LM2776&&fileType=pdf&src-supplier=Avnet; ComponentLink3Description: http://www.ti.com/general/docs/lit/getliterature.tsp?genericPartNumber=LM2776&&fileType=pdf&src-supplier=Avnet
footprint LM2776DBVR_charge_pump_SOT23-6
pins: 1 VOUT (power), 2 GND (power), 3 VIN (power), 4 EN (in), 5 C1+ (power), 6 C1- (power)

## LM4040D30FTA_VOLTAGE_REFERENCE
designator IC?, comment LM4040D30FTA
Manufacturer: Diodes; Part Description: Shunt Voltage Reference IC Fixed 3V V ±1% 15 mA SOT-23-3; Number of Channels: 1; Tolerance: 1%; Output Voltage: 3V; Max Output Current: 15mA; Temperature Coefficient: 150ppm/°C; Cathode Current: 75uA; Reference Type: Shunt; Output Type: Fixed; Supplier 1: Digi-Key; Supplier Part Number 1: LM4040D30FTADICT-ND; Manufacturer Part Number 1: LM4040D30FTA; Stock 1: 23016; Pricing 1: 1=0,58000, 10=0,50100, 25=0,46760, 100=0,37400, 250=0,34724, 500=0,29384, 1000=0,22705 (USD); RoHS: No; Mount: Surface Mount; Case/Package: SOT-23; Number of Pins: 3; Min Operating Temperature: -40°C; Max Operating Temperature: 125°C; Package Quantity: 3000; Packaging: Tape and Reel; Min Output Voltage: 3V; Output Current: 15mA; Max Output Voltage: 3V; Series: LM4040; Radiation Hardening: No; Lead Free: Lead Free; RoHS Compliant: No; ComponentLink1URL: https://datasheet.ciiva.com/1177/1643148-1177233.pdf?src-supplier=Avnet; ComponentLink1Description: https://datasheet.ciiva.com/1177/1643148-1177233.pdf?src-supplier=Avnet
footprint LM4040D30FTA_VOLTAGE_REFERENCE_SOT23-3 (SOT23, 3 pin)
pins: 1 K, 2 A, 3 NC/A

## LM66100DCKR_ideal_diode
designator VD?, comment LM66100DCKR
Manufacturer: Texas Instruments; Manufacturer Lifecycle Status: ACTIVE; Part Description: OR Controller P-Channel 1:1 SC-70-6; Supplier 1: DigiKey; Supplier Part Number 1: 296-53541-6-ND; Manufacturer Part Number 1: LM66100DCKR; Stock 1: 49875; Pricing 1: 1=0,32, 10=0,222, 25=0,1972, 100=0,1697, 250=0,1566, 500=0,14868, 1000=0,14216 (USD); RoHS: Compliant; Height: 1.1mm; Length: 2mm; Lifecycle Status: Production; Number of Pins: 6; Schedule B: 8542390000, 8542390000|8542390000|8542390000|8542390000|8542390000; Thickness: 900µm; Width: 1.25mm; ComponentLink1URL: https://sigma.octopart.com:443/182282881/technical_drawing/Texas-Instruments-LM66100DCKR.pdf?src-supplier=Texas+Instruments; ComponentLink1Description: https://sigma.octopart.com:443/182282881/technical_drawing/Texas-Instruments-LM66100DCKR.pdf?src-supplier=Texas+Instruments; ComponentLink2URL: https://octopart.com:443/opatz8j6/c1?t=irb4DFY3NAhfaIhyvNwSFh7SqiVCBTYahofMEbktL9Rrs0nfjzC1xAFi89sALKrAOd12EBZf5MpvLla8um9TqkI2apBxhLP8ZlWG_p-qnfjlJ5_6YuiY4R0AyTY1C3jXYokAp5A3kibr23mhVdPOphnn3LCA2lsJsX9gxCK0ZDA4e4caozBPJSg-QuhXd1BbH2TUFmvUc2iIeswCuUHjHC7kl0ugVMzMCj_au84l6hJG6AVnkL5EM6XtbAZ0HS1uG8hWwkWpJ6Hw5u2gbfom3bkxn-5nF6DYZ3E-lz2Czl5KSLk96WuM31LwC8Oq_AGZpYyqwDJWyaAs3MNZzHwSE6I8S7Cwi0wyEs53jNNIndeceETSqtBDLEC06GAO58z9tNVDuyc&src-supplier=Texas+Instruments; ComponentLink2Description: https://octopart.com:443/opatz8j6/c1?t=irb4DFY3NAhfaIhyvNwSFh7SqiVCBTYahofMEbktL9Rrs0nfjzC1xAFi89sALKrAOd12EBZf5MpvLla8um9TqkI2apBxhLP8ZlWG_p-qnfjlJ5_6YuiY4R0AyTY1C3jXYokAp5A3kibr23mhVdPOphnn3LCA2lsJsX9gxCK0ZDA4e4caozBPJSg-QuhXd1BbH2TUFmvUc2iIeswCuUHjHC7kl0ugVMzMCj_au84l6hJG6AVnkL5EM6XtbAZ0HS1uG8hWwkWpJ6Hw5u2gbfom3bkxn-5nF6DYZ3E-lz2Czl5KSLk96WuM31LwC8Oq_AGZpYyqwDJWyaAs3MNZzHwSE6I8S7Cwi0wyEs53jNNIndeceETSqtBDLEC06GAO58z9tNVDuyc&src-supplier=Texas+Instruments; ComponentLink3URL: https://sigma.octopart.com:443/178868976/technical_drawing/Texas-Instruments-LM66100DCKR.pdf?src-supplier=Texas+Instruments; ComponentLink3Description: https://sigma.octopart.com:443/178868976/technical_drawing/Texas-Instruments-LM66100DCKR.pdf?src-supplier=Texas+Instruments; ComponentLink4URL: https://sigma.octopart.com:443/49249328/technical_drawing/Texas-Instruments-LM66100DCKR.pdf?src-supplier=Texas+Instruments; ComponentLink4Description: https://sigma.octopart.com:443/49249328/technical_drawing/Texas-Instruments-LM66100DCKR.pdf?src-supplier=Texas+Instruments; ComponentLink5URL: https://datasheet.octopart.com:443/LM66100DCKR-Texas-Instruments-datasheet-159115275.pdf?src-supplier=SHENGYU+ELECTRONICS; ComponentLink5Description: https://datasheet.octopart.com:443/LM66100DCKR-Texas-Instruments-datasheet-159115275.pdf?src-supplier=SHENGYU+ELECTRONICS; ComponentLink6URL: https://datasheet.octopart.com:443/LM66100DCKR-Texas-Instruments-datasheet-159115156.pdf?src-supplier=LCSC; ComponentLink6Description: https://datasheet.octopart.com:443/LM66100DCKR-Texas-Instruments-datasheet-159115156.pdf?src-supplier=LCSC; ComponentLink7URL: http://sigma.octopart.com:80/reach_statement/Texas-Instruments-company-64.pdf?src-supplier=Compliance+Statements; ComponentLink7Description: http://sigma.octopart.com:80/reach_statement/Texas-Instruments-company-64.pdf?src-supplier=Compliance+Statements; ComponentLink8URL: http://sigma.octopart.com:80/conflict_mineral_statement/Texas-Instruments-company-63.pdf?src-supplier=Compliance+Statements; ComponentLink8Description: http://sigma.octopart.com:80/conflict_mineral_statement/Texas-Instruments-company-63.pdf?src-supplier=Compliance+Statements
footprint LM66100DCKR_SC70
pins: 1 VIN (in), 2 GND, 3 ~{CE} (in), 4 N/C, 5 ST (out), 6 VOUT (out)

## LMH2110TMX/NOPB
designator IC?, comment LMH2110TMX
Part Description: RF Detector; Logarithmic RMS; 50 MHz to 8000 MHz; DSBGA-6; Manufacturer Part Number 1: LMH2110TMX/NOPB; Manufacturer: Texas Instruments; Supplier Part Number 1: 926-LMH2110TMX/NOPB; Supplier 1: Mouser
footprint LMH2110TMX/NOPB_DSBGA6
pins: A1 VDD (power), A2 OUT (out), B1 RF_IN (in), B2 GND, C1 GND, C2 EN (in)

## LMK00101
designator IC?
Manufacturer: Texas Instruments; Manufacturer Part Number 1: LMK00101SQE/NOPB; Input: HCSL, LVCMOS, LVDS, LVPECL, LVTTL, SSTL, Crystal; Frequency - Max: 200MHz; Output: LVCMOS, LVTTL; Ratio - Input:Output: 3:10; Number of Circuits: 1; Voltage - Supply: 2.375 V ~ 3.45 V; Differential - Input:Output: Yes/No; Supplier 1: Digi-Key; Mounting Type: Surface Mount; Package / Case: 32-WFQFN Exposed Pad; RoHS: RoHS Compliant; Operating Temperature: -40°C ~ 85°C; Type: Fanout Buffer (Distribution), Multiplexer, Translator; Category: Integrated Circuits (ICs); Packaging: Cut Tape (CT); Supplier Device Package: 32-WQFN (5x5); Supplier Part Number 1: 296-39036-1-ND
footprint LMK00101_WQFN32 (QFN, 24-Leads, Body 4,00x4,00mm, Pitch 0,50mm, Thermal Pad 2,55x2,55mm, IPC Medium Density)
pins: 1 CLKout0 (out), 2 Vddo (power), 3 CLKout1 (out), 4 GND, 5 CLKout2 (out), 6 Vddo (power), 7 CLKout3 (out), 8 CLKout4 (out), 9 GND, 10 Vdd (power), 11 OSCin (in), 12 OSCout (out), 13 CLKin0 (in), 14 CLKin0* (in), 15 GND, 16 GND, 17 CLKout5 (out), 18 CLKout6 (out), 19 Vddo (power), 20 CLKout7 (out), 21 GND, 22 CLKout8 (out), 23 Vddo (power), 24 CLKout9 (out), 25 GND, 26 GND, 27 CLKin1* (in), 28 CLKin1 (in), 29 SEL1 (in), 30 SEL0 (in), 31 OE (in), 32 GND

## LMK00105
designator IC?
Manufacturer: Texas Instruments; Manufacturer Part Number 1: LMK00105SQ/NOPB; Frequency - Max: 200MHz; Voltage - Supply: 2.375 V ~ 3.45 V; Input: HCSL, LVCMOS, LVDS, LVPECL, LVTTL, SSTL, Crystal; Differential - Input:Output: Yes/No; Supplier 1: Digi-Key; Type: Fanout Buffer (Distribution), Multiplexer, Translator; Category: Integrated Circuits (ICs); Operating Temperature: -40°C ~ 85°C; Package / Case: 24-WFQFN Exposed Pad; Supplier Device Package: 24-WQFN (4x4); Supplier Part Number 1: LMK00105SQ/NOPBCT-ND
footprint LMK00105SQ (QFN, 24-Leads, Body 4,00x4,00mm, Pitch 0,50mm, Thermal Pad 2,60x2,60mm, IPC Medium Density)
pins: 1 GND, 2 Vddo, 3 CLKout0, 4 GND, 5 CLKout1, 6 Vddo, 7 GND, 8 Vdd, 9 OSCin, 10 OSCout, 11 GND, 12 GND, 13 CLKout2, 14 Vddo, 15 CLKout3, 16 GND, 17 CLKout4, 18 Vddo, 19 GND, 20 CLKin*, 21 CLKin, 22 SEL, 23 Vdd, 24 OE, 25 GND

## LMK00105SQ
designator IC?
Manufacturer Part Number 1: LMK00105SQ/NOPB; Manufacturer: Texas Instruments; Voltage - Supply: 2.375 V ~ 3.45 V; Frequency - Max: 200MHz; Differential - Input:Output: Yes/No; Number of Circuits: 1; Output: LVCMOS; Input: HCSL, LVCMOS, LVDS, LVPECL, LVTTL, SSTL, Crystal; Ratio - Input:Output: 2:5; Supplier 1: Digi-Key; Operating Temperature: -40°C ~ 85°C; RoHS: RoHS Compliant; Category: Integrated Circuits (ICs); Type: Fanout Buffer (Distribution), Multiplexer, Translator; Packaging: Cut Tape (CT); Supplier Device Package: 24-WQFN (4x4); Mounting Type: Surface Mount; Package / Case: 24-WFQFN Exposed Pad; Supplier Part Number 1: LMK00105SQ/NOPBCT-ND
pins: 1 GND, 2 Vddo, 3 CLKout0, 4 GND, 5 CLKout1, 6 Vddo, 7 GND, 8 Vdd, 9 OSCin, 10 OSCout, 11 GND, 12 GND, 13 CLKout2, 14 Vddo, 15 CLKout3, 16 GND, 17 CLKout4, 18 Vddo, 19 GND, 20 CLKin*, 21 CLKin, 22 SEL, 23 Vdd, 24 OE, 25 GND

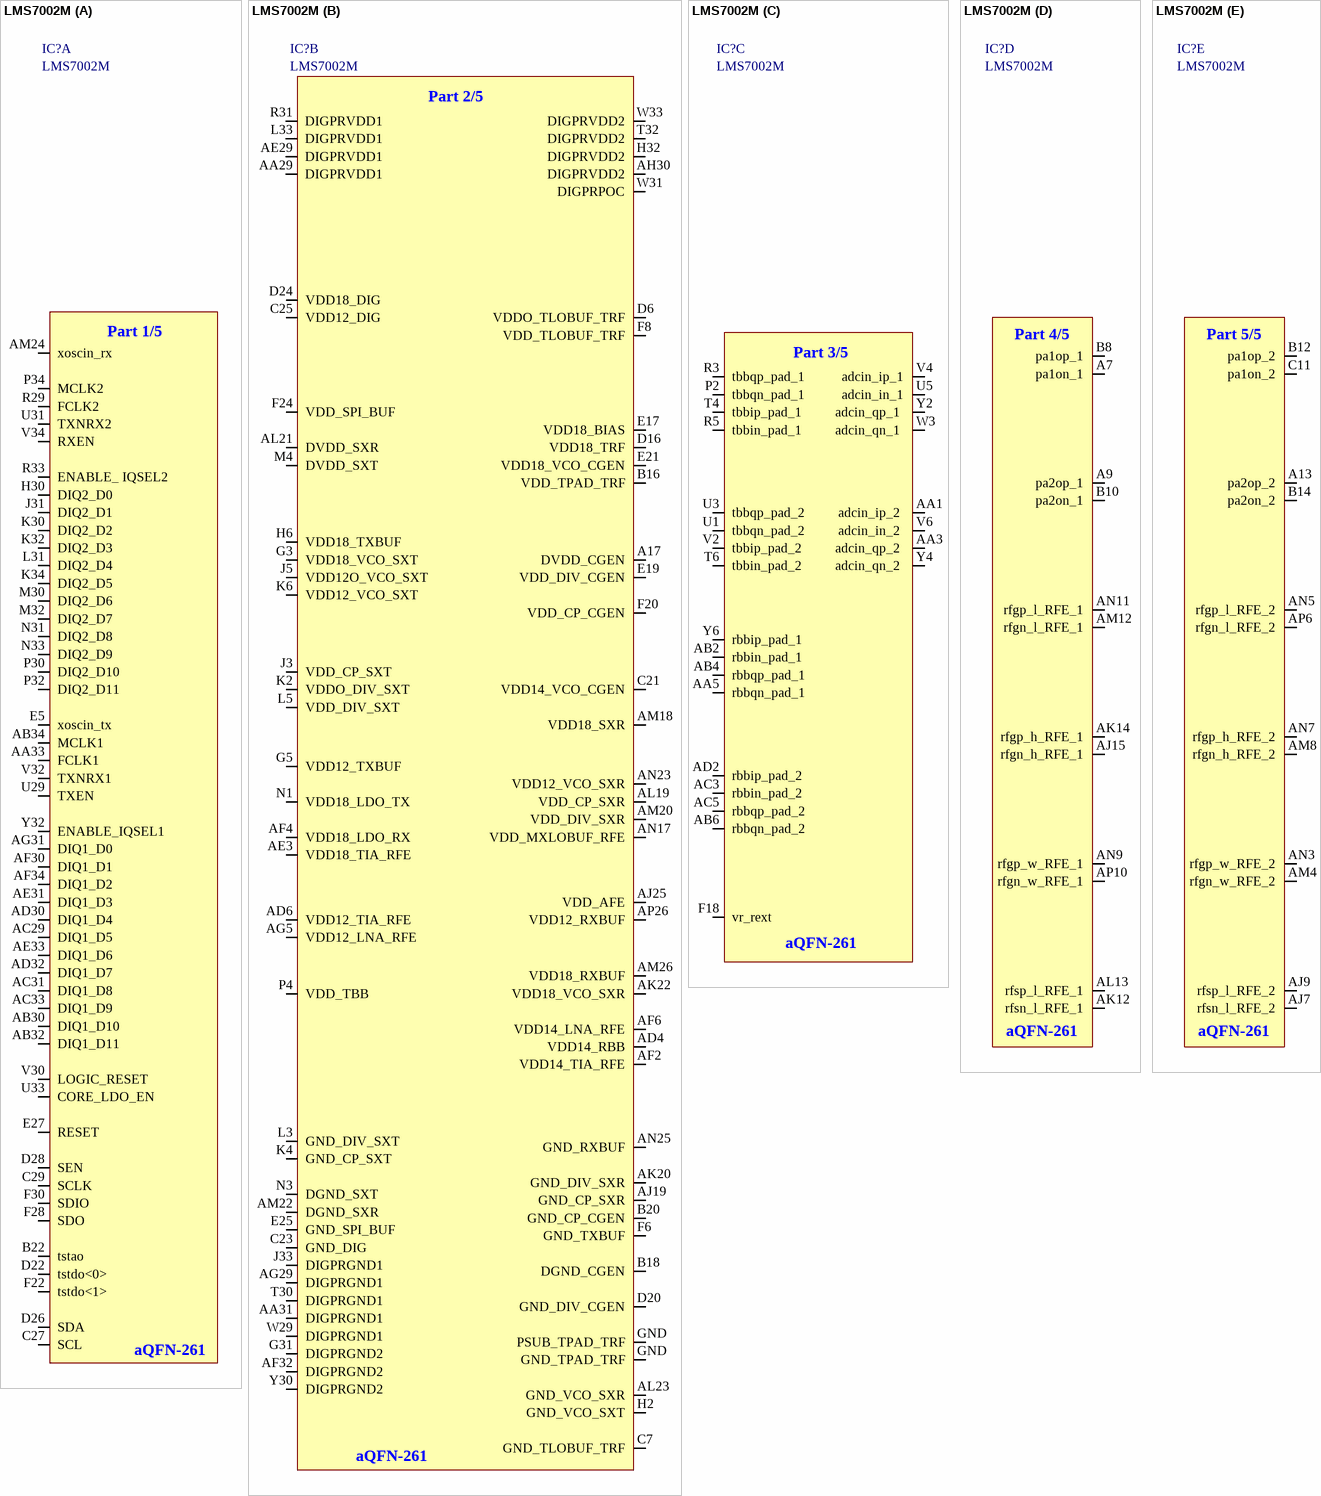
[diagram p55: symbol LMS7002M]